# Altium integrated library NXP_60_26022015.IntLib: 1306 symbols (part 9 of 28)
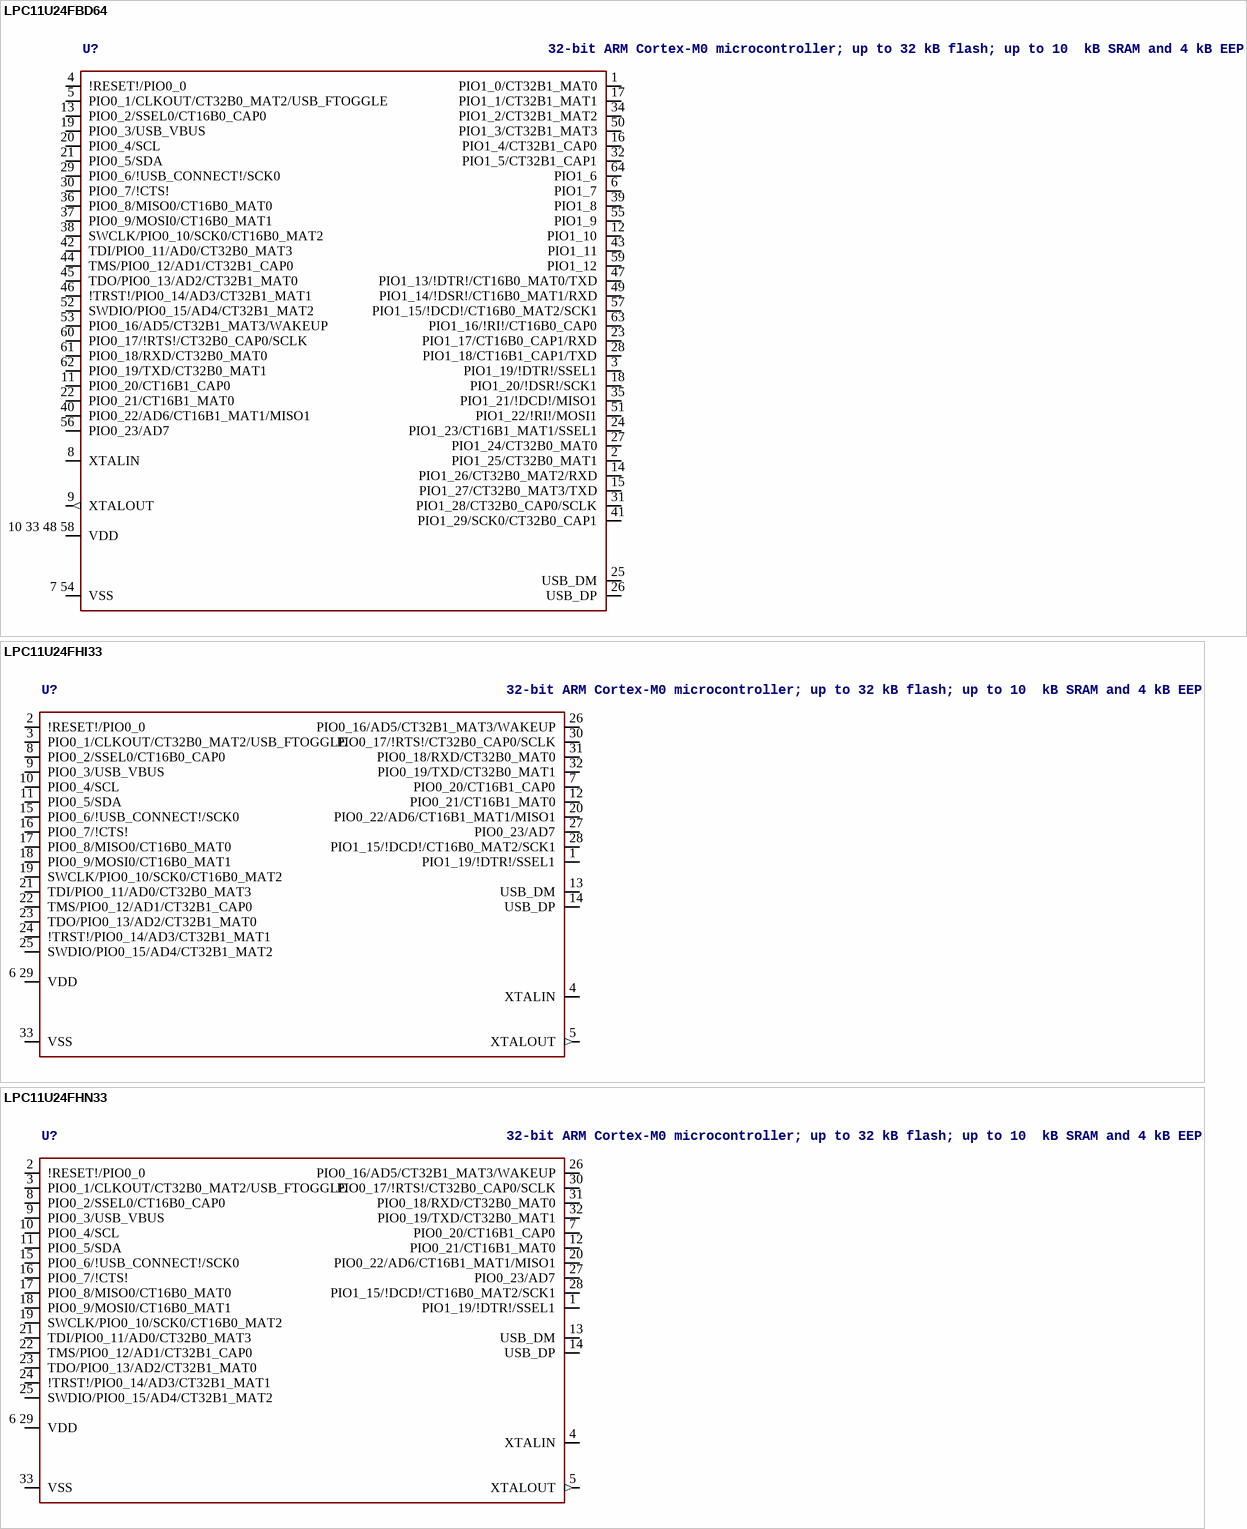
[diagram p193: symbols LPC11U24FBD64 to LPC11U24FHN33]

## LPC11U24FBD64
designator U?, comment 32-bit ARM Cortex-M0 microcontroller; up to 32 kB flash; up to 10  kB SRAM and 4 kB EEPROM; USB device; USART The LPC11U2x are an ARM Cortex-M0 based, low-cost 32-bit MCU family, designed for 8/16-bit microcontroller applications, offering performance, low power, simple instruction set and memory addressing together with reduced code size compared to existing 8/16-bit architectures. The LPC11U2x operate at CPU frequencies of up to 50 MHz. Equipped with a highly flexible and configurable Full-Speed USB 2.0 device controller, the LPC11U2x brings unparalleled design flexibility and seamless integration to today’s demanding connectivity solutions. The peripheral complement of the LPC11U2x includes up to 32 kB of flash memory, up to 10 kB of SRAM data memory and 4 kB EEPROM, one Fast-mode Plus I 2 C-bus interface, one RS-485/EIA-485 USART with support for synchronous mode and smart card interface, two SSP interfaces, four general-purpose counter/timers, a 10-bit ADC (Analog-to-Digital Converter), and up to 54 general-purpose I/O pins.   AAL Eindhoven MK
EEPROM: 4kB; FLASH: 32kB; GPIO: 54; SRAM: 8kB; USB_SRAM: 2kB
footprint SOT314-2
pins: 1 PIO1_0/CT32B1_MAT0, 2 PIO1_25/CT32B0_MAT1, 3 PIO1_19/!DTR!/SSEL1, 4 !RESET!/PIO0_0, 5 PIO0_1/CLKOUT/CT32B0_MAT2/USB_FTOGGLE, 6 PIO1_7, 7 54 VSS (power), 8 XTALIN, 9 XTALOUT (out), 10 33 48 58 VDD (power), 11 PIO0_20/CT16B1_CAP0, 12 PIO1_10, 13 PIO0_2/SSEL0/CT16B0_CAP0, 14 PIO1_26/CT32B0_MAT2/RXD, 15 PIO1_27/CT32B0_MAT3/TXD, 16 PIO1_4/CT32B1_CAP0, 17 PIO1_1/CT32B1_MAT1, 18 PIO1_20/!DSR!/SCK1, 19 PIO0_3/USB_VBUS, 20 PIO0_4/SCL, 21 PIO0_5/SDA, 22 PIO0_21/CT16B1_MAT0, 23 PIO1_17/CT16B0_CAP1/RXD, 24 PIO1_23/CT16B1_MAT1/SSEL1, 25 USB_DM, 26 USB_DP, 27 PIO1_24/CT32B0_MAT0, 28 PIO1_18/CT16B1_CAP1/TXD, 29 PIO0_6/!USB_CONNECT!/SCK0, 30 PIO0_7/!CTS!, 31 PIO1_28/CT32B0_CAP0/SCLK, 32 PIO1_5/CT32B1_CAP1, 34 PIO1_2/CT32B1_MAT2, 35 PIO1_21/!DCD!/MISO1, 36 PIO0_8/MISO0/CT16B0_MAT0, 37 PIO0_9/MOSI0/CT16B0_MAT1, 38 SWCLK/PIO0_10/SCK0/CT16B0_MAT2, 39 PIO1_8, 40 PIO0_22/AD6/CT16B1_MAT1/MISO1, 41 PIO1_29/SCK0/CT32B0_CAP1, 42 TDI/PIO0_11/AD0/CT32B0_MAT3, 43 PIO1_11, 44 TMS/PIO0_12/AD1/CT32B1_CAP0, 45 TDO/PIO0_13/AD2/CT32B1_MAT0, 46 !TRST!/PIO0_14/AD3/CT32B1_MAT1, 47 PIO1_13/!DTR!/CT16B0_MAT0/TXD, 49 PIO1_14/!DSR!/CT16B0_MAT1/RXD, 50 PIO1_3/CT32B1_MAT3, 51 PIO1_22/!RI!/MOSI1, 52 SWDIO/PIO0_15/AD4/CT32B1_MAT2, 53 PIO0_16/AD5/CT32B1_MAT3/WAKEUP, 55 PIO1_9, 56 PIO0_23/AD7, 57 PIO1_15/!DCD!/CT16B0_MAT2/SCK1, 59 PIO1_12, 60 PIO0_17/!RTS!/CT32B0_CAP0/SCLK, 61 PIO0_18/RXD/CT32B0_MAT0, 62 PIO0_19/TXD/CT32B0_MAT1, 63 PIO1_16/!RI!/CT16B0_CAP0, 64 PIO1_6

## LPC11U24FHI33
designator U?, comment 32-bit ARM Cortex-M0 microcontroller; up to 32 kB flash; up to 10  kB SRAM and 4 kB EEPROM; USB device; USART The LPC11U2x are an ARM Cortex-M0 based, low-cost 32-bit MCU family, designed for 8/16-bit microcontroller applications, offering performance, low power, simple instruction set and memory addressing together with reduced code size compared to existing 8/16-bit architectures. The LPC11U2x operate at CPU frequencies of up to 50 MHz. Equipped with a highly flexible and configurable Full-Speed USB 2.0 device controller, the LPC11U2x brings unparalleled design flexibility and seamless integration to today’s demanding connectivity solutions. The peripheral complement of the LPC11U2x includes up to 32 kB of flash memory, up to 10 kB of SRAM data memory and 4 kB EEPROM, one Fast-mode Plus I 2 C-bus interface, one RS-485/EIA-485 USART with support for synchronous mode and smart card interface, two SSP interfaces, four general-purpose counter/timers, a 10-bit ADC (Analog-to-Digital Converter), and up to 54 general-purpose I/O pins.   AAL Eindhoven MK
EEPROM: 2kB; FLASH: 32kB; GPIO: 26; SRAM: 6kB; USB_SRAM: 2kB
footprint SOT617-3
pins: 1 PIO1_19/!DTR!/SSEL1, 2 !RESET!/PIO0_0, 3 PIO0_1/CLKOUT/CT32B0_MAT2/USB_FTOGGLE, 4 XTALIN, 5 XTALOUT (out), 6 29 VDD (power), 7 PIO0_20/CT16B1_CAP0, 8 PIO0_2/SSEL0/CT16B0_CAP0, 9 PIO0_3/USB_VBUS, 10 PIO0_4/SCL, 11 PIO0_5/SDA, 12 PIO0_21/CT16B1_MAT0, 13 USB_DM, 14 USB_DP, 15 PIO0_6/!USB_CONNECT!/SCK0, 16 PIO0_7/!CTS!, 17 PIO0_8/MISO0/CT16B0_MAT0, 18 PIO0_9/MOSI0/CT16B0_MAT1, 19 SWCLK/PIO0_10/SCK0/CT16B0_MAT2, 20 PIO0_22/AD6/CT16B1_MAT1/MISO1, 21 TDI/PIO0_11/AD0/CT32B0_MAT3, 22 TMS/PIO0_12/AD1/CT32B1_CAP0, 23 TDO/PIO0_13/AD2/CT32B1_MAT0, 24 !TRST!/PIO0_14/AD3/CT32B1_MAT1, 25 SWDIO/PIO0_15/AD4/CT32B1_MAT2, 26 PIO0_16/AD5/CT32B1_MAT3/WAKEUP, 27 PIO0_23/AD7, 28 PIO1_15/!DCD!/CT16B0_MAT2/SCK1, 30 PIO0_17/!RTS!/CT32B0_CAP0/SCLK, 31 PIO0_18/RXD/CT32B0_MAT0, 32 PIO0_19/TXD/CT32B0_MAT1, 33 VSS (power)

## LPC11U24FHN33
designator U?, comment 32-bit ARM Cortex-M0 microcontroller; up to 32 kB flash; up to 10  kB SRAM and 4 kB EEPROM; USB device; USART The LPC11U2x are an ARM Cortex-M0 based, low-cost 32-bit MCU family, designed for 8/16-bit microcontroller applications, offering performance, low power, simple instruction set and memory addressing together with reduced code size compared to existing 8/16-bit architectures. The LPC11U2x operate at CPU frequencies of up to 50 MHz. Equipped with a highly flexible and configurable Full-Speed USB 2.0 device controller, the LPC11U2x brings unparalleled design flexibility and seamless integration to today’s demanding connectivity solutions. The peripheral complement of the LPC11U2x includes up to 32 kB of flash memory, up to 10 kB of SRAM data memory and 4 kB EEPROM, one Fast-mode Plus I 2 C-bus interface, one RS-485/EIA-485 USART with support for synchronous mode and smart card interface, two SSP interfaces, four general-purpose counter/timers, a 10-bit ADC (Analog-to-Digital Converter), and up to 54 general-purpose I/O pins.   AAL Eindhoven MK
EEPROM: 4kB; FLASH: 32kB; GPIO: 26; SRAM: 8kB; USB_SRAM: 2kB
footprint SOT-HVQFN33
pins: 1 PIO1_19/!DTR!/SSEL1, 2 !RESET!/PIO0_0, 3 PIO0_1/CLKOUT/CT32B0_MAT2/USB_FTOGGLE, 4 XTALIN, 5 XTALOUT (out), 6 29 VDD (power), 7 PIO0_20/CT16B1_CAP0, 8 PIO0_2/SSEL0/CT16B0_CAP0, 9 PIO0_3/USB_VBUS, 10 PIO0_4/SCL, 11 PIO0_5/SDA, 12 PIO0_21/CT16B1_MAT0, 13 USB_DM, 14 USB_DP, 15 PIO0_6/!USB_CONNECT!/SCK0, 16 PIO0_7/!CTS!, 17 PIO0_8/MISO0/CT16B0_MAT0, 18 PIO0_9/MOSI0/CT16B0_MAT1, 19 SWCLK/PIO0_10/SCK0/CT16B0_MAT2, 20 PIO0_22/AD6/CT16B1_MAT1/MISO1, 21 TDI/PIO0_11/AD0/CT32B0_MAT3, 22 TMS/PIO0_12/AD1/CT32B1_CAP0, 23 TDO/PIO0_13/AD2/CT32B1_MAT0, 24 !TRST!/PIO0_14/AD3/CT32B1_MAT1, 25 SWDIO/PIO0_15/AD4/CT32B1_MAT2, 26 PIO0_16/AD5/CT32B1_MAT3/WAKEUP, 27 PIO0_23/AD7, 28 PIO1_15/!DCD!/CT16B0_MAT2/SCK1, 30 PIO0_17/!RTS!/CT32B0_CAP0/SCLK, 31 PIO0_18/RXD/CT32B0_MAT0, 32 PIO0_19/TXD/CT32B0_MAT1, 33 VSS (power)

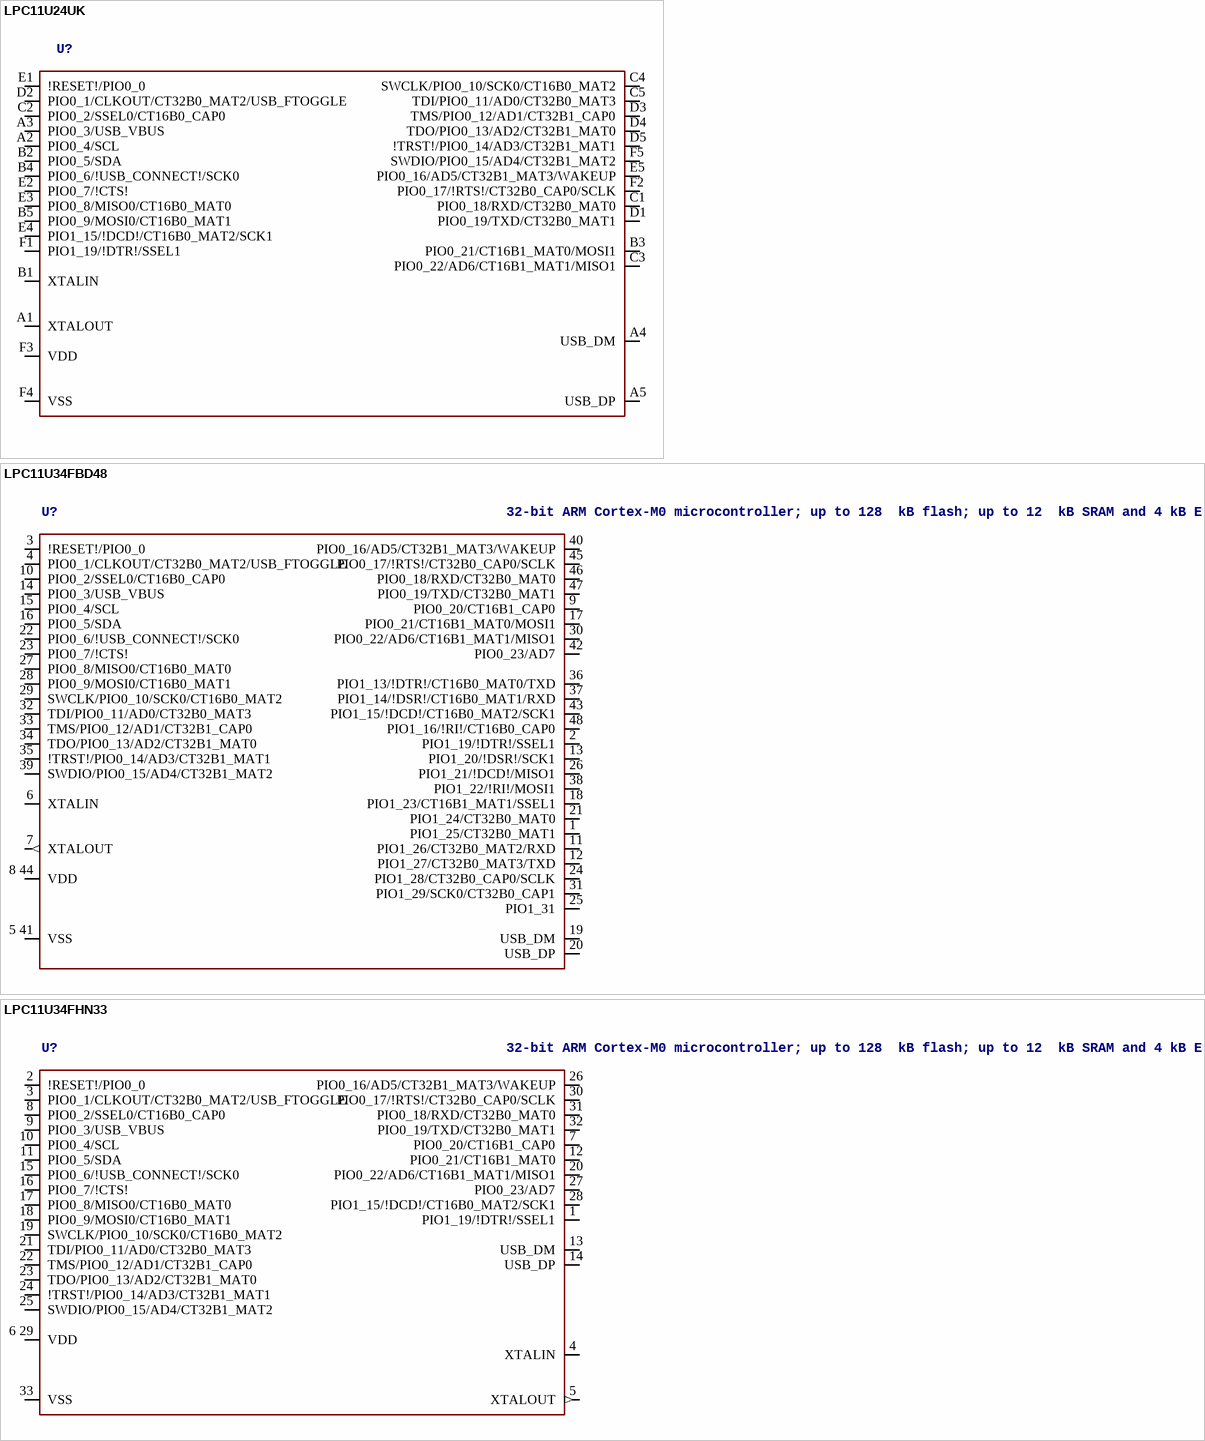
[diagram p48: symbols LPC11U24UK to LPC11U34FHN33]

## LPC11U24UK
designator U?
footprint WLCSP30
pins: A1 XTALOUT, A2 PIO0_4/SCL, A3 PIO0_3/USB_VBUS, A4 USB_DM, A5 USB_DP, B1 XTALIN, B2 PIO0_5/SDA, B3 PIO0_21/CT16B1_MAT0/MOSI1, B4 PIO0_6/!USB_CONNECT!/SCK0, B5 PIO0_9/MOSI0/CT16B0_MAT1, C1 PIO0_18/RXD/CT32B0_MAT0, C2 PIO0_2/SSEL0/CT16B0_CAP0, C3 PIO0_22/AD6/CT16B1_MAT1/MISO1, C4 SWCLK/PIO0_10/SCK0/CT16B0_MAT2, C5 TDI/PIO0_11/AD0/CT32B0_MAT3, D1 PIO0_19/TXD/CT32B0_MAT1, D2 PIO0_1/CLKOUT/CT32B0_MAT2/USB_FTOGGLE, D3 TMS/PIO0_12/AD1/CT32B1_CAP0, D4 TDO/PIO0_13/AD2/CT32B1_MAT0, D5 !TRST!/PIO0_14/AD3/CT32B1_MAT1, E1 !RESET!/PIO0_0, E2 PIO0_7/!CTS!, E3 PIO0_8/MISO0/CT16B0_MAT0, E4 PIO1_15/!DCD!/CT16B0_MAT2/SCK1, E5 PIO0_16/AD5/CT32B1_MAT3/WAKEUP, F1 PIO1_19/!DTR!/SSEL1, F2 PIO0_17/!RTS!/CT32B0_CAP0/SCLK, F3 VDD (power), F4 VSS (power), F5 SWDIO/PIO0_15/AD4/CT32B1_MAT2

## LPC11U34FBD48
designator U?, comment 32-bit ARM Cortex-M0 microcontroller; up to 128  kB flash; up to 12  kB SRAM and 4 kB EEPROM; USB device; USART The LPC11U3x are a ARM Cortex-M0 based, low-cost 32-bit MCU family, designed for 8/16-bit microcontroller applications, offering performance, low power, simple instruction set and memory addressing together with reduced code size compared to existing 8/16-bit architectures. The LPC11U3x operate at CPU frequencies of up to 50 MHz. Equipped with a highly flexible and configurable Full Speed USB 2.0 device controller, the LPC11U3x brings unparalleled design flexibility and seamless integration to today’s demanding connectivity solutions. The peripheral complement of the LPC11U3x includes up to 128 kB of flash memory, up to 12 kB of SRAM data memory and 4 kB EEPROM, one Fast-mode Plus I 2 C-bus interface, one RS-485/EIA-485 USART with support for synchronous mode and smart card interface, two SSP interfaces, four general purpose counter/timers, a 10-bit ADC, and up to 54 general purpose I/O pins.    AAL Eindhoven MK
FLASH: 40kB; GPIO: 40; SRAM: 8kB; FLASH: 48kB; SRAM: 10kB
footprint SOT313-2
pins: 1 PIO1_25/CT32B0_MAT1, 2 PIO1_19/!DTR!/SSEL1, 3 !RESET!/PIO0_0, 4 PIO0_1/CLKOUT/CT32B0_MAT2/USB_FTOGGLE, 5 41 VSS (power), 6 XTALIN, 7 XTALOUT (out), 8 44 VDD (power), 9 PIO0_20/CT16B1_CAP0, 10 PIO0_2/SSEL0/CT16B0_CAP0, 11 PIO1_26/CT32B0_MAT2/RXD, 12 PIO1_27/CT32B0_MAT3/TXD, 13 PIO1_20/!DSR!/SCK1, 14 PIO0_3/USB_VBUS, 15 PIO0_4/SCL, 16 PIO0_5/SDA, 17 PIO0_21/CT16B1_MAT0/MOSI1, 18 PIO1_23/CT16B1_MAT1/SSEL1, 19 USB_DM, 20 USB_DP, 21 PIO1_24/CT32B0_MAT0, 22 PIO0_6/!USB_CONNECT!/SCK0, 23 PIO0_7/!CTS!, 24 PIO1_28/CT32B0_CAP0/SCLK, 25 PIO1_31, 26 PIO1_21/!DCD!/MISO1, 27 PIO0_8/MISO0/CT16B0_MAT0, 28 PIO0_9/MOSI0/CT16B0_MAT1, 29 SWCLK/PIO0_10/SCK0/CT16B0_MAT2, 30 PIO0_22/AD6/CT16B1_MAT1/MISO1, 31 PIO1_29/SCK0/CT32B0_CAP1, 32 TDI/PIO0_11/AD0/CT32B0_MAT3, 33 TMS/PIO0_12/AD1/CT32B1_CAP0, 34 TDO/PIO0_13/AD2/CT32B1_MAT0, 35 !TRST!/PIO0_14/AD3/CT32B1_MAT1, 36 PIO1_13/!DTR!/CT16B0_MAT0/TXD, 37 PIO1_14/!DSR!/CT16B0_MAT1/RXD, 38 PIO1_22/!RI!/MOSI1, 39 SWDIO/PIO0_15/AD4/CT32B1_MAT2, 40 PIO0_16/AD5/CT32B1_MAT3/WAKEUP, 42 PIO0_23/AD7, 43 PIO1_15/!DCD!/CT16B0_MAT2/SCK1, 45 PIO0_17/!RTS!/CT32B0_CAP0/SCLK, 46 PIO0_18/RXD/CT32B0_MAT0, 47 PIO0_19/TXD/CT32B0_MAT1, 48 PIO1_16/!RI!/CT16B0_CAP0

## LPC11U34FHN33
designator U?, comment 32-bit ARM Cortex-M0 microcontroller; up to 128  kB flash; up to 12  kB SRAM and 4 kB EEPROM; USB device; USART The LPC11U3x are a ARM Cortex-M0 based, low-cost 32-bit MCU family, designed for 8/16-bit microcontroller applications, offering performance, low power, simple instruction set and memory addressing together with reduced code size compared to existing 8/16-bit architectures. The LPC11U3x operate at CPU frequencies of up to 50 MHz. Equipped with a highly flexible and configurable Full Speed USB 2.0 device controller, the LPC11U3x brings unparalleled design flexibility and seamless integration to today’s demanding connectivity solutions. The peripheral complement of the LPC11U3x includes up to 128 kB of flash memory, up to 12 kB of SRAM data memory and 4 kB EEPROM, one Fast-mode Plus I 2 C-bus interface, one RS-485/EIA-485 USART with support for synchronous mode and smart card interface, two SSP interfaces, four general purpose counter/timers, a 10-bit ADC, and up to 54 general purpose I/O pins.    AAL Eindhoven MK
FLASH: 40kB; GPIO: 26; SRAM: 8kB; FLASH: 48kB; SRAM: 10kB
footprint SOT-HVQFN33
pins: 1 PIO1_19/!DTR!/SSEL1, 2 !RESET!/PIO0_0, 3 PIO0_1/CLKOUT/CT32B0_MAT2/USB_FTOGGLE, 4 XTALIN, 5 XTALOUT (out), 6 29 VDD (power), 7 PIO0_20/CT16B1_CAP0, 8 PIO0_2/SSEL0/CT16B0_CAP0, 9 PIO0_3/USB_VBUS, 10 PIO0_4/SCL, 11 PIO0_5/SDA, 12 PIO0_21/CT16B1_MAT0, 13 USB_DM, 14 USB_DP, 15 PIO0_6/!USB_CONNECT!/SCK0, 16 PIO0_7/!CTS!, 17 PIO0_8/MISO0/CT16B0_MAT0, 18 PIO0_9/MOSI0/CT16B0_MAT1, 19 SWCLK/PIO0_10/SCK0/CT16B0_MAT2, 20 PIO0_22/AD6/CT16B1_MAT1/MISO1, 21 TDI/PIO0_11/AD0/CT32B0_MAT3, 22 TMS/PIO0_12/AD1/CT32B1_CAP0, 23 TDO/PIO0_13/AD2/CT32B1_MAT0, 24 !TRST!/PIO0_14/AD3/CT32B1_MAT1, 25 SWDIO/PIO0_15/AD4/CT32B1_MAT2, 26 PIO0_16/AD5/CT32B1_MAT3/WAKEUP, 27 PIO0_23/AD7, 28 PIO1_15/!DCD!/CT16B0_MAT2/SCK1, 30 PIO0_17/!RTS!/CT32B0_CAP0/SCLK, 31 PIO0_18/RXD/CT32B0_MAT0, 32 PIO0_19/TXD/CT32B0_MAT1, 33 VSS (power)

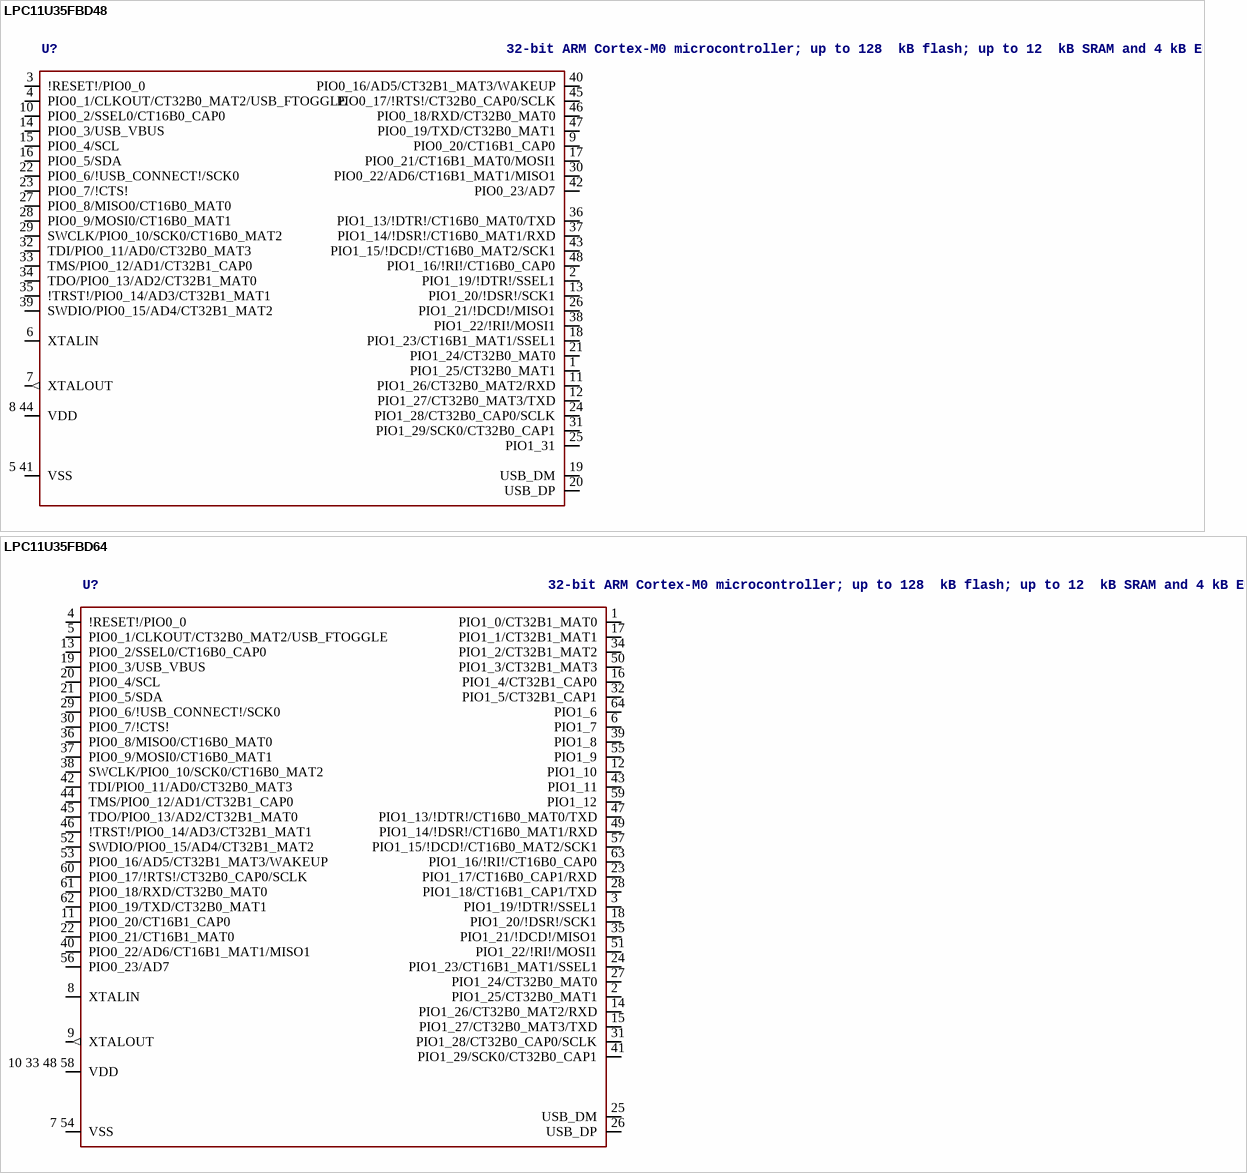
[diagram p49: symbols LPC11U35FBD48 to LPC11U35FBD64]

## LPC11U35FBD48
designator U?, comment 32-bit ARM Cortex-M0 microcontroller; up to 128  kB flash; up to 12  kB SRAM and 4 kB EEPROM; USB device; USART The LPC11U3x are a ARM Cortex-M0 based, low-cost 32-bit MCU family, designed for 8/16-bit microcontroller applications, offering performance, low power, simple instruction set and memory addressing together with reduced code size compared to existing 8/16-bit architectures. The LPC11U3x operate at CPU frequencies of up to 50 MHz. Equipped with a highly flexible and configurable Full Speed USB 2.0 device controller, the LPC11U3x brings unparalleled design flexibility and seamless integration to today’s demanding connectivity solutions. The peripheral complement of the LPC11U3x includes up to 128 kB of flash memory, up to 12 kB of SRAM data memory and 4 kB EEPROM, one Fast-mode Plus I 2 C-bus interface, one RS-485/EIA-485 USART with support for synchronous mode and smart card interface, two SSP interfaces, four general purpose counter/timers, a 10-bit ADC, and up to 54 general purpose I/O pins.    AAL Eindhoven MK
FLASH: 64kB; GPIO: 40; SRAM: 10kB
footprint SOT313-2
pins: 1 PIO1_25/CT32B0_MAT1, 2 PIO1_19/!DTR!/SSEL1, 3 !RESET!/PIO0_0, 4 PIO0_1/CLKOUT/CT32B0_MAT2/USB_FTOGGLE, 5 41 VSS (power), 6 XTALIN, 7 XTALOUT (out), 8 44 VDD (power), 9 PIO0_20/CT16B1_CAP0, 10 PIO0_2/SSEL0/CT16B0_CAP0, 11 PIO1_26/CT32B0_MAT2/RXD, 12 PIO1_27/CT32B0_MAT3/TXD, 13 PIO1_20/!DSR!/SCK1, 14 PIO0_3/USB_VBUS, 15 PIO0_4/SCL, 16 PIO0_5/SDA, 17 PIO0_21/CT16B1_MAT0/MOSI1, 18 PIO1_23/CT16B1_MAT1/SSEL1, 19 USB_DM, 20 USB_DP, 21 PIO1_24/CT32B0_MAT0, 22 PIO0_6/!USB_CONNECT!/SCK0, 23 PIO0_7/!CTS!, 24 PIO1_28/CT32B0_CAP0/SCLK, 25 PIO1_31, 26 PIO1_21/!DCD!/MISO1, 27 PIO0_8/MISO0/CT16B0_MAT0, 28 PIO0_9/MOSI0/CT16B0_MAT1, 29 SWCLK/PIO0_10/SCK0/CT16B0_MAT2, 30 PIO0_22/AD6/CT16B1_MAT1/MISO1, 31 PIO1_29/SCK0/CT32B0_CAP1, 32 TDI/PIO0_11/AD0/CT32B0_MAT3, 33 TMS/PIO0_12/AD1/CT32B1_CAP0, 34 TDO/PIO0_13/AD2/CT32B1_MAT0, 35 !TRST!/PIO0_14/AD3/CT32B1_MAT1, 36 PIO1_13/!DTR!/CT16B0_MAT0/TXD, 37 PIO1_14/!DSR!/CT16B0_MAT1/RXD, 38 PIO1_22/!RI!/MOSI1, 39 SWDIO/PIO0_15/AD4/CT32B1_MAT2, 40 PIO0_16/AD5/CT32B1_MAT3/WAKEUP, 42 PIO0_23/AD7, 43 PIO1_15/!DCD!/CT16B0_MAT2/SCK1, 45 PIO0_17/!RTS!/CT32B0_CAP0/SCLK, 46 PIO0_18/RXD/CT32B0_MAT0, 47 PIO0_19/TXD/CT32B0_MAT1, 48 PIO1_16/!RI!/CT16B0_CAP0

## LPC11U35FBD64
designator U?, comment 32-bit ARM Cortex-M0 microcontroller; up to 128  kB flash; up to 12  kB SRAM and 4 kB EEPROM; USB device; USART The LPC11U3x are a ARM Cortex-M0 based, low-cost 32-bit MCU family, designed for 8/16-bit microcontroller applications, offering performance, low power, simple instruction set and memory addressing together with reduced code size compared to existing 8/16-bit architectures. The LPC11U3x operate at CPU frequencies of up to 50 MHz. Equipped with a highly flexible and configurable Full Speed USB 2.0 device controller, the LPC11U3x brings unparalleled design flexibility and seamless integration to today’s demanding connectivity solutions. The peripheral complement of the LPC11U3x includes up to 128 kB of flash memory, up to 12 kB of SRAM data memory and 4 kB EEPROM, one Fast-mode Plus I 2 C-bus interface, one RS-485/EIA-485 USART with support for synchronous mode and smart card interface, two SSP interfaces, four general purpose counter/timers, a 10-bit ADC, and up to 54 general purpose I/O pins.    AAL Eindhoven MK
FLASH: 64kB; GPIO: 54; SRAM: 10kB
footprint SOT314-2
pins: 1 PIO1_0/CT32B1_MAT0, 2 PIO1_25/CT32B0_MAT1, 3 PIO1_19/!DTR!/SSEL1, 4 !RESET!/PIO0_0, 5 PIO0_1/CLKOUT/CT32B0_MAT2/USB_FTOGGLE, 6 PIO1_7, 7 54 VSS (power), 8 XTALIN, 9 XTALOUT (out), 10 33 48 58 VDD (power), 11 PIO0_20/CT16B1_CAP0, 12 PIO1_10, 13 PIO0_2/SSEL0/CT16B0_CAP0, 14 PIO1_26/CT32B0_MAT2/RXD, 15 PIO1_27/CT32B0_MAT3/TXD, 16 PIO1_4/CT32B1_CAP0, 17 PIO1_1/CT32B1_MAT1, 18 PIO1_20/!DSR!/SCK1, 19 PIO0_3/USB_VBUS, 20 PIO0_4/SCL, 21 PIO0_5/SDA, 22 PIO0_21/CT16B1_MAT0, 23 PIO1_17/CT16B0_CAP1/RXD, 24 PIO1_23/CT16B1_MAT1/SSEL1, 25 USB_DM, 26 USB_DP, 27 PIO1_24/CT32B0_MAT0, 28 PIO1_18/CT16B1_CAP1/TXD, 29 PIO0_6/!USB_CONNECT!/SCK0, 30 PIO0_7/!CTS!, 31 PIO1_28/CT32B0_CAP0/SCLK, 32 PIO1_5/CT32B1_CAP1, 34 PIO1_2/CT32B1_MAT2, 35 PIO1_21/!DCD!/MISO1, 36 PIO0_8/MISO0/CT16B0_MAT0, 37 PIO0_9/MOSI0/CT16B0_MAT1, 38 SWCLK/PIO0_10/SCK0/CT16B0_MAT2, 39 PIO1_8, 40 PIO0_22/AD6/CT16B1_MAT1/MISO1, 41 PIO1_29/SCK0/CT32B0_CAP1, 42 TDI/PIO0_11/AD0/CT32B0_MAT3, 43 PIO1_11, 44 TMS/PIO0_12/AD1/CT32B1_CAP0, 45 TDO/PIO0_13/AD2/CT32B1_MAT0, 46 !TRST!/PIO0_14/AD3/CT32B1_MAT1, 47 PIO1_13/!DTR!/CT16B0_MAT0/TXD, 49 PIO1_14/!DSR!/CT16B0_MAT1/RXD, 50 PIO1_3/CT32B1_MAT3, 51 PIO1_22/!RI!/MOSI1, 52 SWDIO/PIO0_15/AD4/CT32B1_MAT2, 53 PIO0_16/AD5/CT32B1_MAT3/WAKEUP, 55 PIO1_9, 56 PIO0_23/AD7, 57 PIO1_15/!DCD!/CT16B0_MAT2/SCK1, 59 PIO1_12, 60 PIO0_17/!RTS!/CT32B0_CAP0/SCLK, 61 PIO0_18/RXD/CT32B0_MAT0, 62 PIO0_19/TXD/CT32B0_MAT1, 63 PIO1_16/!RI!/CT16B0_CAP0, 64 PIO1_6

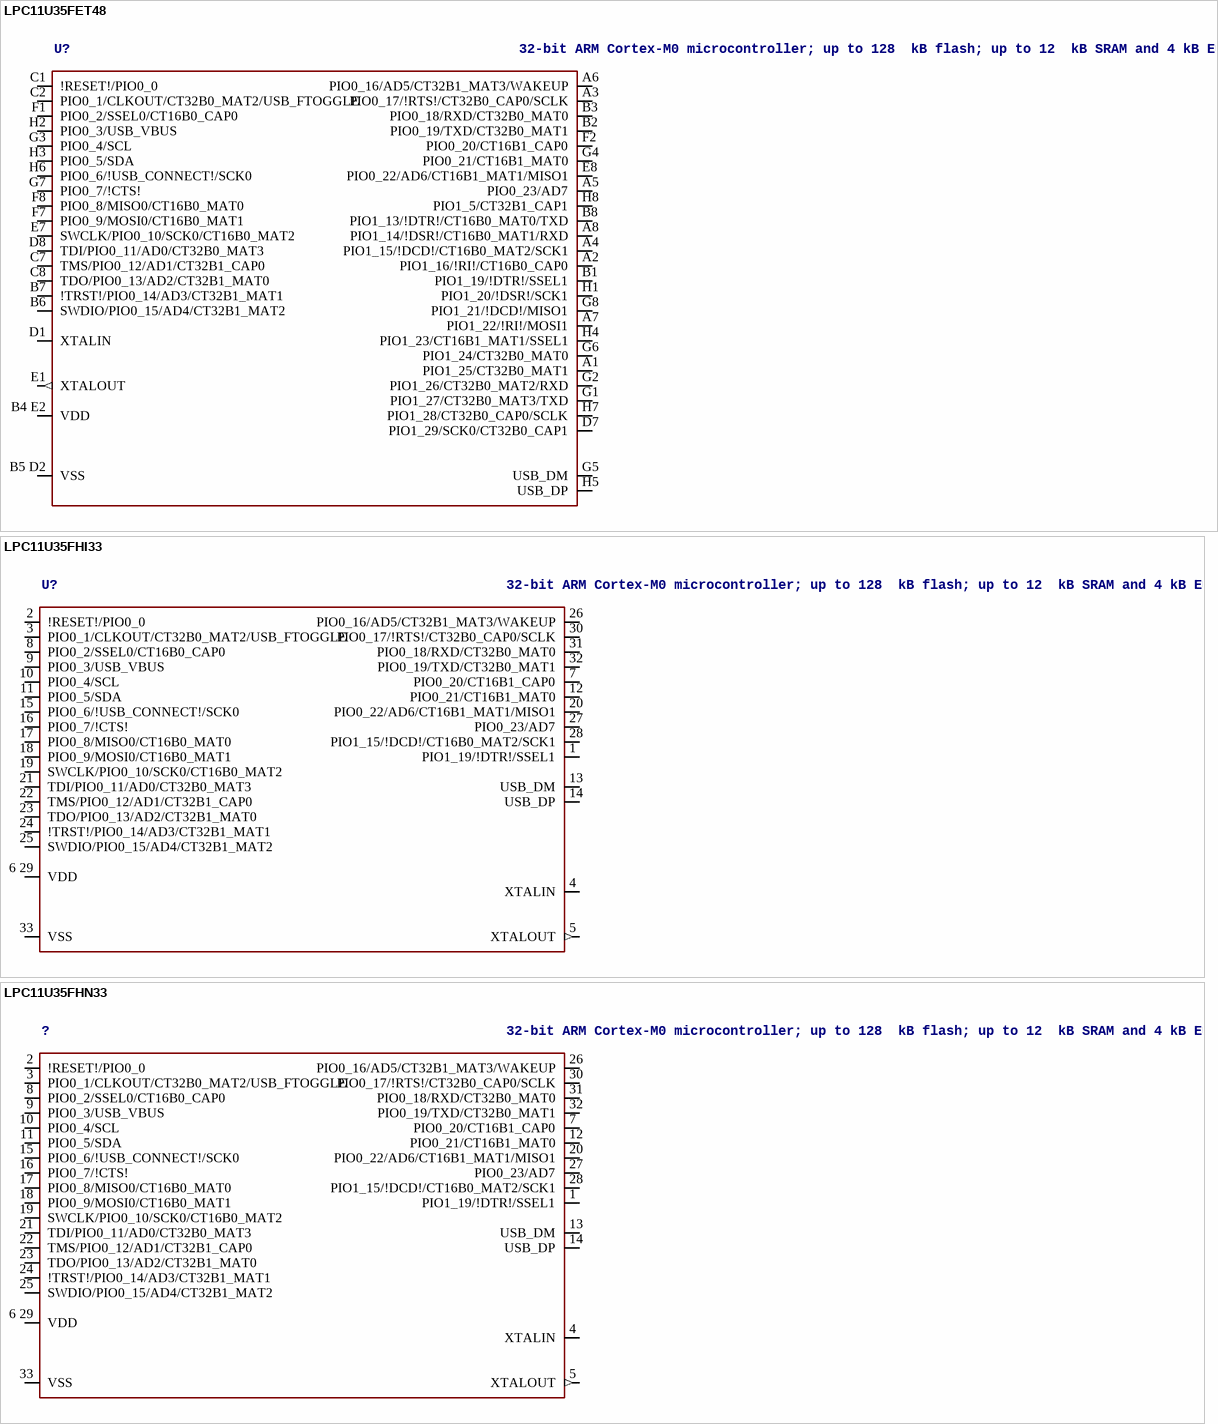
[diagram p50: symbols LPC11U35FET48 to LPC11U35FHN33]

## LPC11U35FET48
designator U?, comment 32-bit ARM Cortex-M0 microcontroller; up to 128  kB flash; up to 12  kB SRAM and 4 kB EEPROM; USB device; USART The LPC11U3x are a ARM Cortex-M0 based, low-cost 32-bit MCU family, designed for 8/16-bit microcontroller applications, offering performance, low power, simple instruction set and memory addressing together with reduced code size compared to existing 8/16-bit architectures. The LPC11U3x operate at CPU frequencies of up to 50 MHz. Equipped with a highly flexible and configurable Full Speed USB 2.0 device controller, the LPC11U3x brings unparalleled design flexibility and seamless integration to today’s demanding connectivity solutions. The peripheral complement of the LPC11U3x includes up to 128 kB of flash memory, up to 12 kB of SRAM data memory and 4 kB EEPROM, one Fast-mode Plus I 2 C-bus interface, one RS-485/EIA-485 USART with support for synchronous mode and smart card interface, two SSP interfaces, four general purpose counter/timers, a 10-bit ADC, and up to 54 general purpose I/O pins.    AAL Eindhoven MK
FLASH: 64kB; GPIO: 40; SRAM: 12kB
footprint SOT1155-2
pins: A1 PIO1_25/CT32B0_MAT1, A2 PIO1_16/!RI!/CT16B0_CAP0, A3 PIO0_17/!RTS!/CT32B0_CAP0/SCLK, A4 PIO1_15/!DCD!/CT16B0_MAT2/SCK1, A5 PIO0_23/AD7, A6 PIO0_16/AD5/CT32B1_MAT3/WAKEUP, A7 PIO1_22/!RI!/MOSI1, A8 PIO1_14/!DSR!/CT16B0_MAT1/RXD, B1 PIO1_19/!DTR!/SSEL1, B2 PIO0_19/TXD/CT32B0_MAT1, B3 PIO0_18/RXD/CT32B0_MAT0, B4 E2 VDD (power), B5 D2 VSS (power), B6 SWDIO/PIO0_15/AD4/CT32B1_MAT2, B7 !TRST!/PIO0_14/AD3/CT32B1_MAT1, B8 PIO1_13/!DTR!/CT16B0_MAT0/TXD, C1 !RESET!/PIO0_0, C2 PIO0_1/CLKOUT/CT32B0_MAT2/USB_FTOGGLE, C7 TMS/PIO0_12/AD1/CT32B1_CAP0, C8 TDO/PIO0_13/AD2/CT32B1_MAT0, D1 XTALIN, D7 PIO1_29/SCK0/CT32B0_CAP1, D8 TDI/PIO0_11/AD0/CT32B0_MAT3, E1 XTALOUT (out), E7 SWCLK/PIO0_10/SCK0/CT16B0_MAT2, E8 PIO0_22/AD6/CT16B1_MAT1/MISO1, F1 PIO0_2/SSEL0/CT16B0_CAP0, F2 PIO0_20/CT16B1_CAP0, F7 PIO0_9/MOSI0/CT16B0_MAT1, F8 PIO0_8/MISO0/CT16B0_MAT0, G1 PIO1_27/CT32B0_MAT3/TXD, G2 PIO1_26/CT32B0_MAT2/RXD, G3 PIO0_4/SCL, G4 PIO0_21/CT16B1_MAT0, G5 USB_DM, G6 PIO1_24/CT32B0_MAT0, G7 PIO0_7/!CTS!, G8 PIO1_21/!DCD!/MISO1, H1 PIO1_20/!DSR!/SCK1, H2 PIO0_3/USB_VBUS, H3 PIO0_5/SDA, H4 PIO1_23/CT16B1_MAT1/SSEL1, H5 USB_DP, H6 PIO0_6/!USB_CONNECT!/SCK0, H7 PIO1_28/CT32B0_CAP0/SCLK, H8 PIO1_5/CT32B1_CAP1

## LPC11U35FHI33
designator U?, comment 32-bit ARM Cortex-M0 microcontroller; up to 128  kB flash; up to 12  kB SRAM and 4 kB EEPROM; USB device; USART The LPC11U3x are a ARM Cortex-M0 based, low-cost 32-bit MCU family, designed for 8/16-bit microcontroller applications, offering performance, low power, simple instruction set and memory addressing together with reduced code size compared to existing 8/16-bit architectures. The LPC11U3x operate at CPU frequencies of up to 50 MHz. Equipped with a highly flexible and configurable Full Speed USB 2.0 device controller, the LPC11U3x brings unparalleled design flexibility and seamless integration to today’s demanding connectivity solutions. The peripheral complement of the LPC11U3x includes up to 128 kB of flash memory, up to 12 kB of SRAM data memory and 4 kB EEPROM, one Fast-mode Plus I 2 C-bus interface, one RS-485/EIA-485 USART with support for synchronous mode and smart card interface, two SSP interfaces, four general purpose counter/timers, a 10-bit ADC, and up to 54 general purpose I/O pins.    AAL Eindhoven MK
FLASH: 64kB; GPIO: 26; SRAM: 12kB
footprint SOT617-3
pins: 1 PIO1_19/!DTR!/SSEL1, 2 !RESET!/PIO0_0, 3 PIO0_1/CLKOUT/CT32B0_MAT2/USB_FTOGGLE, 4 XTALIN, 5 XTALOUT (out), 6 29 VDD (power), 7 PIO0_20/CT16B1_CAP0, 8 PIO0_2/SSEL0/CT16B0_CAP0, 9 PIO0_3/USB_VBUS, 10 PIO0_4/SCL, 11 PIO0_5/SDA, 12 PIO0_21/CT16B1_MAT0, 13 USB_DM, 14 USB_DP, 15 PIO0_6/!USB_CONNECT!/SCK0, 16 PIO0_7/!CTS!, 17 PIO0_8/MISO0/CT16B0_MAT0, 18 PIO0_9/MOSI0/CT16B0_MAT1, 19 SWCLK/PIO0_10/SCK0/CT16B0_MAT2, 20 PIO0_22/AD6/CT16B1_MAT1/MISO1, 21 TDI/PIO0_11/AD0/CT32B0_MAT3, 22 TMS/PIO0_12/AD1/CT32B1_CAP0, 23 TDO/PIO0_13/AD2/CT32B1_MAT0, 24 !TRST!/PIO0_14/AD3/CT32B1_MAT1, 25 SWDIO/PIO0_15/AD4/CT32B1_MAT2, 26 PIO0_16/AD5/CT32B1_MAT3/WAKEUP, 27 PIO0_23/AD7, 28 PIO1_15/!DCD!/CT16B0_MAT2/SCK1, 30 PIO0_17/!RTS!/CT32B0_CAP0/SCLK, 31 PIO0_18/RXD/CT32B0_MAT0, 32 PIO0_19/TXD/CT32B0_MAT1, 33 VSS (power)

## LPC11U35FHN33
designator ?, comment 32-bit ARM Cortex-M0 microcontroller; up to 128  kB flash; up to 12  kB SRAM and 4 kB EEPROM; USB device; USART The LPC11U3x are a ARM Cortex-M0 based, low-cost 32-bit MCU family, designed for 8/16-bit microcontroller applications, offering performance, low power, simple instruction set and memory addressing together with reduced code size compared to existing 8/16-bit architectures. The LPC11U3x operate at CPU frequencies of up to 50 MHz. Equipped with a highly flexible and configurable Full Speed USB 2.0 device controller, the LPC11U3x brings unparalleled design flexibility and seamless integration to today’s demanding connectivity solutions. The peripheral complement of the LPC11U3x includes up to 128 kB of flash memory, up to 12 kB of SRAM data memory and 4 kB EEPROM, one Fast-mode Plus I 2 C-bus interface, one RS-485/EIA-485 USART with support for synchronous mode and smart card interface, two SSP interfaces, four general purpose counter/timers, a 10-bit ADC, and up to 54 general purpose I/O pins.    AAL Eindhoven MK
FLASH: 64kB; GPIO: 26; SRAM: 10kB
footprint SOT-HVQFN33
pins: 1 PIO1_19/!DTR!/SSEL1, 2 !RESET!/PIO0_0, 3 PIO0_1/CLKOUT/CT32B0_MAT2/USB_FTOGGLE, 4 XTALIN, 5 XTALOUT (out), 6 29 VDD (power), 7 PIO0_20/CT16B1_CAP0, 8 PIO0_2/SSEL0/CT16B0_CAP0, 9 PIO0_3/USB_VBUS, 10 PIO0_4/SCL, 11 PIO0_5/SDA, 12 PIO0_21/CT16B1_MAT0, 13 USB_DM, 14 USB_DP, 15 PIO0_6/!USB_CONNECT!/SCK0, 16 PIO0_7/!CTS!, 17 PIO0_8/MISO0/CT16B0_MAT0, 18 PIO0_9/MOSI0/CT16B0_MAT1, 19 SWCLK/PIO0_10/SCK0/CT16B0_MAT2, 20 PIO0_22/AD6/CT16B1_MAT1/MISO1, 21 TDI/PIO0_11/AD0/CT32B0_MAT3, 22 TMS/PIO0_12/AD1/CT32B1_CAP0, 23 TDO/PIO0_13/AD2/CT32B1_MAT0, 24 !TRST!/PIO0_14/AD3/CT32B1_MAT1, 25 SWDIO/PIO0_15/AD4/CT32B1_MAT2, 26 PIO0_16/AD5/CT32B1_MAT3/WAKEUP, 27 PIO0_23/AD7, 28 PIO1_15/!DCD!/CT16B0_MAT2/SCK1, 30 PIO0_17/!RTS!/CT32B0_CAP0/SCLK, 31 PIO0_18/RXD/CT32B0_MAT0, 32 PIO0_19/TXD/CT32B0_MAT1, 33 VSS (power)

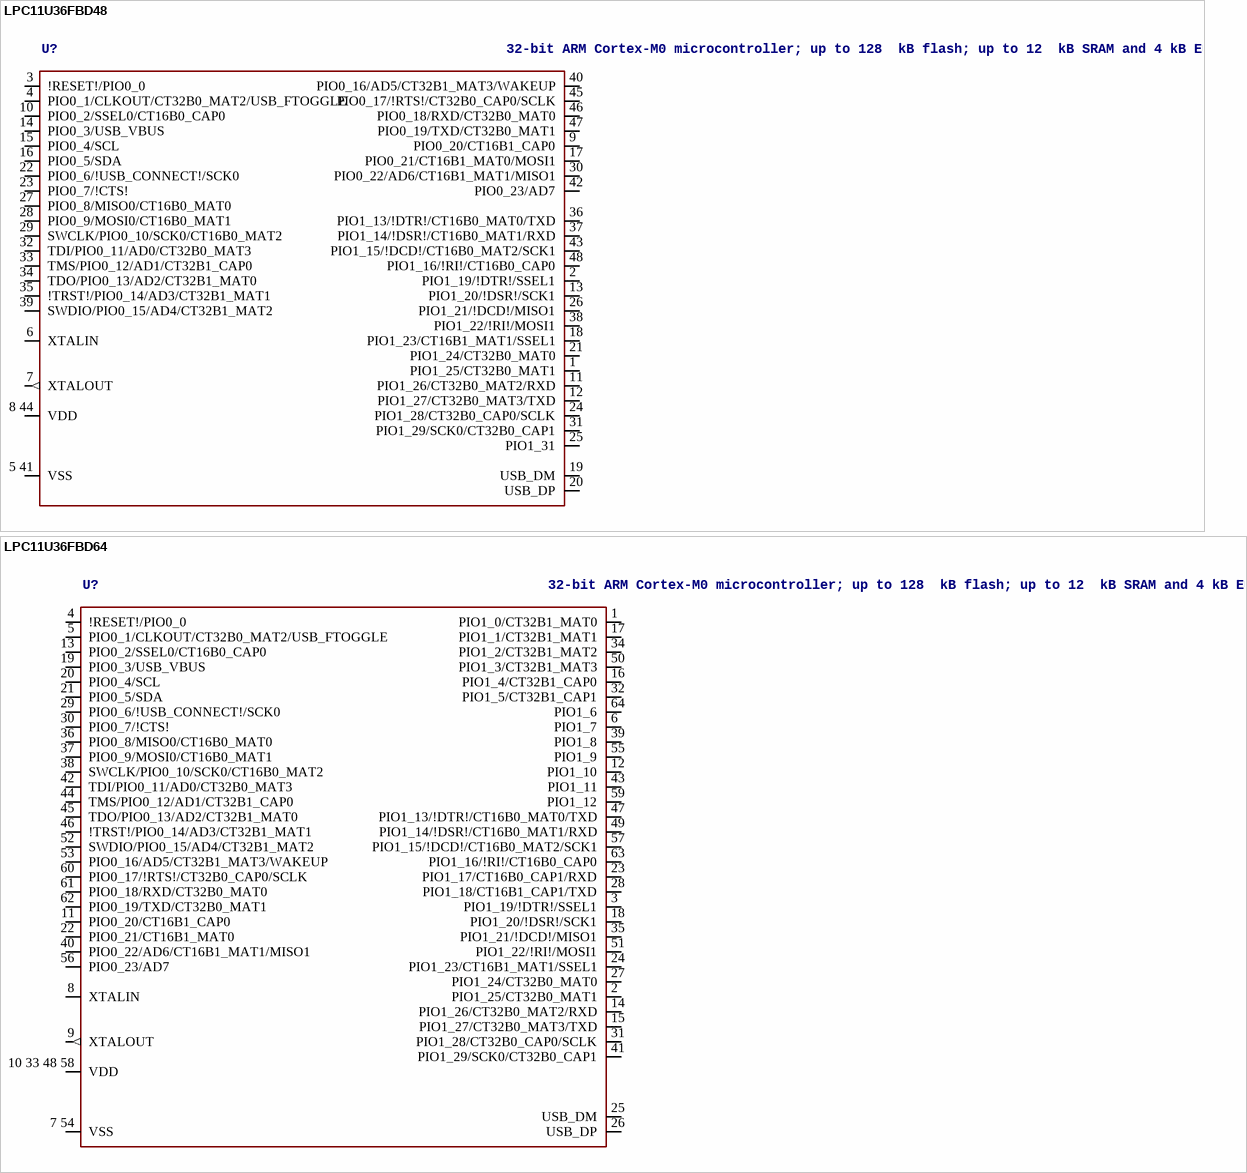
[diagram p51: symbols LPC11U36FBD48 to LPC11U36FBD64]

## LPC11U36FBD48
designator U?, comment 32-bit ARM Cortex-M0 microcontroller; up to 128  kB flash; up to 12  kB SRAM and 4 kB EEPROM; USB device; USART The LPC11U3x are a ARM Cortex-M0 based, low-cost 32-bit MCU family, designed for 8/16-bit microcontroller applications, offering performance, low power, simple instruction set and memory addressing together with reduced code size compared to existing 8/16-bit architectures. The LPC11U3x operate at CPU frequencies of up to 50 MHz. Equipped with a highly flexible and configurable Full Speed USB 2.0 device controller, the LPC11U3x brings unparalleled design flexibility and seamless integration to today’s demanding connectivity solutions. The peripheral complement of the LPC11U3x includes up to 128 kB of flash memory, up to 12 kB of SRAM data memory and 4 kB EEPROM, one Fast-mode Plus I 2 C-bus interface, one RS-485/EIA-485 USART with support for synchronous mode and smart card interface, two SSP interfaces, four general purpose counter/timers, a 10-bit ADC, and up to 54 general purpose I/O pins.    AAL Eindhoven MK
FLASH: 96kB; GPIO: 40; SRAM: 10kB
footprint SOT313-2
pins: 1 PIO1_25/CT32B0_MAT1, 2 PIO1_19/!DTR!/SSEL1, 3 !RESET!/PIO0_0, 4 PIO0_1/CLKOUT/CT32B0_MAT2/USB_FTOGGLE, 5 41 VSS (power), 6 XTALIN, 7 XTALOUT (out), 8 44 VDD (power), 9 PIO0_20/CT16B1_CAP0, 10 PIO0_2/SSEL0/CT16B0_CAP0, 11 PIO1_26/CT32B0_MAT2/RXD, 12 PIO1_27/CT32B0_MAT3/TXD, 13 PIO1_20/!DSR!/SCK1, 14 PIO0_3/USB_VBUS, 15 PIO0_4/SCL, 16 PIO0_5/SDA, 17 PIO0_21/CT16B1_MAT0/MOSI1, 18 PIO1_23/CT16B1_MAT1/SSEL1, 19 USB_DM, 20 USB_DP, 21 PIO1_24/CT32B0_MAT0, 22 PIO0_6/!USB_CONNECT!/SCK0, 23 PIO0_7/!CTS!, 24 PIO1_28/CT32B0_CAP0/SCLK, 25 PIO1_31, 26 PIO1_21/!DCD!/MISO1, 27 PIO0_8/MISO0/CT16B0_MAT0, 28 PIO0_9/MOSI0/CT16B0_MAT1, 29 SWCLK/PIO0_10/SCK0/CT16B0_MAT2, 30 PIO0_22/AD6/CT16B1_MAT1/MISO1, 31 PIO1_29/SCK0/CT32B0_CAP1, 32 TDI/PIO0_11/AD0/CT32B0_MAT3, 33 TMS/PIO0_12/AD1/CT32B1_CAP0, 34 TDO/PIO0_13/AD2/CT32B1_MAT0, 35 !TRST!/PIO0_14/AD3/CT32B1_MAT1, 36 PIO1_13/!DTR!/CT16B0_MAT0/TXD, 37 PIO1_14/!DSR!/CT16B0_MAT1/RXD, 38 PIO1_22/!RI!/MOSI1, 39 SWDIO/PIO0_15/AD4/CT32B1_MAT2, 40 PIO0_16/AD5/CT32B1_MAT3/WAKEUP, 42 PIO0_23/AD7, 43 PIO1_15/!DCD!/CT16B0_MAT2/SCK1, 45 PIO0_17/!RTS!/CT32B0_CAP0/SCLK, 46 PIO0_18/RXD/CT32B0_MAT0, 47 PIO0_19/TXD/CT32B0_MAT1, 48 PIO1_16/!RI!/CT16B0_CAP0

## LPC11U36FBD64
designator U?, comment 32-bit ARM Cortex-M0 microcontroller; up to 128  kB flash; up to 12  kB SRAM and 4 kB EEPROM; USB device; USART The LPC11U3x are a ARM Cortex-M0 based, low-cost 32-bit MCU family, designed for 8/16-bit microcontroller applications, offering performance, low power, simple instruction set and memory addressing together with reduced code size compared to existing 8/16-bit architectures. The LPC11U3x operate at CPU frequencies of up to 50 MHz. Equipped with a highly flexible and configurable Full Speed USB 2.0 device controller, the LPC11U3x brings unparalleled design flexibility and seamless integration to today’s demanding connectivity solutions. The peripheral complement of the LPC11U3x includes up to 128 kB of flash memory, up to 12 kB of SRAM data memory and 4 kB EEPROM, one Fast-mode Plus I 2 C-bus interface, one RS-485/EIA-485 USART with support for synchronous mode and smart card interface, two SSP interfaces, four general purpose counter/timers, a 10-bit ADC, and up to 54 general purpose I/O pins.    AAL Eindhoven MK
FLASH: 96kB; GPIO: 54; SRAM: 10kB
footprint SOT314-2
pins: 1 PIO1_0/CT32B1_MAT0, 2 PIO1_25/CT32B0_MAT1, 3 PIO1_19/!DTR!/SSEL1, 4 !RESET!/PIO0_0, 5 PIO0_1/CLKOUT/CT32B0_MAT2/USB_FTOGGLE, 6 PIO1_7, 7 54 VSS (power), 8 XTALIN, 9 XTALOUT (out), 10 33 48 58 VDD (power), 11 PIO0_20/CT16B1_CAP0, 12 PIO1_10, 13 PIO0_2/SSEL0/CT16B0_CAP0, 14 PIO1_26/CT32B0_MAT2/RXD, 15 PIO1_27/CT32B0_MAT3/TXD, 16 PIO1_4/CT32B1_CAP0, 17 PIO1_1/CT32B1_MAT1, 18 PIO1_20/!DSR!/SCK1, 19 PIO0_3/USB_VBUS, 20 PIO0_4/SCL, 21 PIO0_5/SDA, 22 PIO0_21/CT16B1_MAT0, 23 PIO1_17/CT16B0_CAP1/RXD, 24 PIO1_23/CT16B1_MAT1/SSEL1, 25 USB_DM, 26 USB_DP, 27 PIO1_24/CT32B0_MAT0, 28 PIO1_18/CT16B1_CAP1/TXD, 29 PIO0_6/!USB_CONNECT!/SCK0, 30 PIO0_7/!CTS!, 31 PIO1_28/CT32B0_CAP0/SCLK, 32 PIO1_5/CT32B1_CAP1, 34 PIO1_2/CT32B1_MAT2, 35 PIO1_21/!DCD!/MISO1, 36 PIO0_8/MISO0/CT16B0_MAT0, 37 PIO0_9/MOSI0/CT16B0_MAT1, 38 SWCLK/PIO0_10/SCK0/CT16B0_MAT2, 39 PIO1_8, 40 PIO0_22/AD6/CT16B1_MAT1/MISO1, 41 PIO1_29/SCK0/CT32B0_CAP1, 42 TDI/PIO0_11/AD0/CT32B0_MAT3, 43 PIO1_11, 44 TMS/PIO0_12/AD1/CT32B1_CAP0, 45 TDO/PIO0_13/AD2/CT32B1_MAT0, 46 !TRST!/PIO0_14/AD3/CT32B1_MAT1, 47 PIO1_13/!DTR!/CT16B0_MAT0/TXD, 49 PIO1_14/!DSR!/CT16B0_MAT1/RXD, 50 PIO1_3/CT32B1_MAT3, 51 PIO1_22/!RI!/MOSI1, 52 SWDIO/PIO0_15/AD4/CT32B1_MAT2, 53 PIO0_16/AD5/CT32B1_MAT3/WAKEUP, 55 PIO1_9, 56 PIO0_23/AD7, 57 PIO1_15/!DCD!/CT16B0_MAT2/SCK1, 59 PIO1_12, 60 PIO0_17/!RTS!/CT32B0_CAP0/SCLK, 61 PIO0_18/RXD/CT32B0_MAT0, 62 PIO0_19/TXD/CT32B0_MAT1, 63 PIO1_16/!RI!/CT16B0_CAP0, 64 PIO1_6

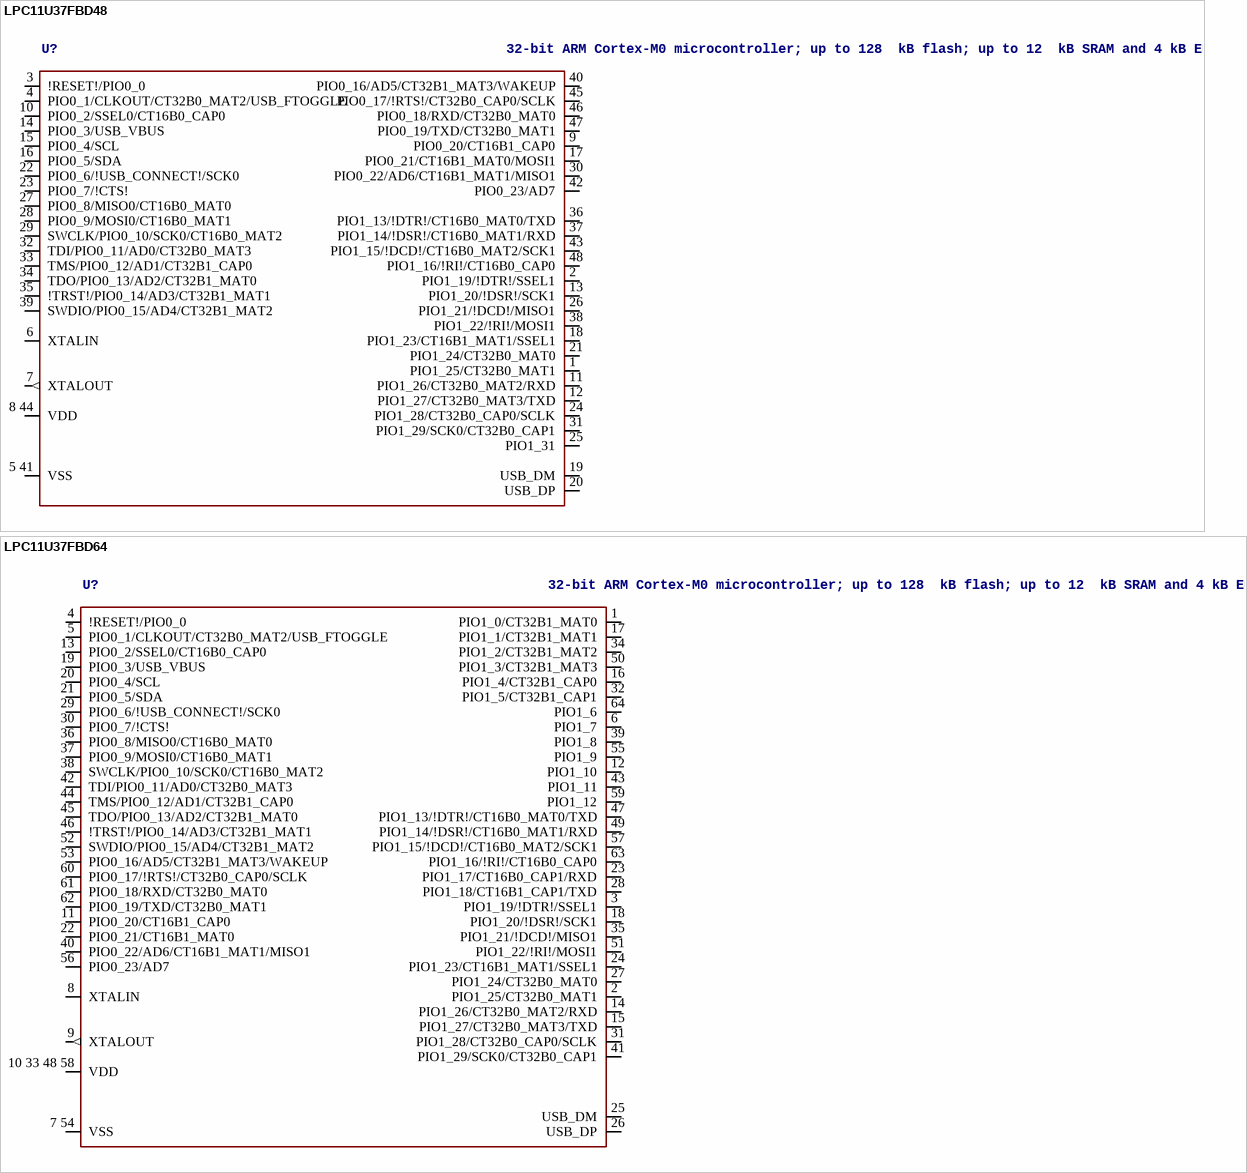
[diagram p52: symbols LPC11U37FBD48 to LPC11U37FBD64]

## LPC11U37FBD48
designator U?, comment 32-bit ARM Cortex-M0 microcontroller; up to 128  kB flash; up to 12  kB SRAM and 4 kB EEPROM; USB device; USART The LPC11U3x are a ARM Cortex-M0 based, low-cost 32-bit MCU family, designed for 8/16-bit microcontroller applications, offering performance, low power, simple instruction set and memory addressing together with reduced code size compared to existing 8/16-bit architectures. The LPC11U3x operate at CPU frequencies of up to 50 MHz. Equipped with a highly flexible and configurable Full Speed USB 2.0 device controller, the LPC11U3x brings unparalleled design flexibility and seamless integration to today’s demanding connectivity solutions. The peripheral complement of the LPC11U3x includes up to 128 kB of flash memory, up to 12 kB of SRAM data memory and 4 kB EEPROM, one Fast-mode Plus I 2 C-bus interface, one RS-485/EIA-485 USART with support for synchronous mode and smart card interface, two SSP interfaces, four general purpose counter/timers, a 10-bit ADC, and up to 54 general purpose I/O pins.    AAL Eindhoven MK
FLASH: 128kB; GPIO: 40; SRAM: 10kB
footprint SOT313-2
pins: 1 PIO1_25/CT32B0_MAT1, 2 PIO1_19/!DTR!/SSEL1, 3 !RESET!/PIO0_0, 4 PIO0_1/CLKOUT/CT32B0_MAT2/USB_FTOGGLE, 5 41 VSS (power), 6 XTALIN, 7 XTALOUT (out), 8 44 VDD (power), 9 PIO0_20/CT16B1_CAP0, 10 PIO0_2/SSEL0/CT16B0_CAP0, 11 PIO1_26/CT32B0_MAT2/RXD, 12 PIO1_27/CT32B0_MAT3/TXD, 13 PIO1_20/!DSR!/SCK1, 14 PIO0_3/USB_VBUS, 15 PIO0_4/SCL, 16 PIO0_5/SDA, 17 PIO0_21/CT16B1_MAT0/MOSI1, 18 PIO1_23/CT16B1_MAT1/SSEL1, 19 USB_DM, 20 USB_DP, 21 PIO1_24/CT32B0_MAT0, 22 PIO0_6/!USB_CONNECT!/SCK0, 23 PIO0_7/!CTS!, 24 PIO1_28/CT32B0_CAP0/SCLK, 25 PIO1_31, 26 PIO1_21/!DCD!/MISO1, 27 PIO0_8/MISO0/CT16B0_MAT0, 28 PIO0_9/MOSI0/CT16B0_MAT1, 29 SWCLK/PIO0_10/SCK0/CT16B0_MAT2, 30 PIO0_22/AD6/CT16B1_MAT1/MISO1, 31 PIO1_29/SCK0/CT32B0_CAP1, 32 TDI/PIO0_11/AD0/CT32B0_MAT3, 33 TMS/PIO0_12/AD1/CT32B1_CAP0, 34 TDO/PIO0_13/AD2/CT32B1_MAT0, 35 !TRST!/PIO0_14/AD3/CT32B1_MAT1, 36 PIO1_13/!DTR!/CT16B0_MAT0/TXD, 37 PIO1_14/!DSR!/CT16B0_MAT1/RXD, 38 PIO1_22/!RI!/MOSI1, 39 SWDIO/PIO0_15/AD4/CT32B1_MAT2, 40 PIO0_16/AD5/CT32B1_MAT3/WAKEUP, 42 PIO0_23/AD7, 43 PIO1_15/!DCD!/CT16B0_MAT2/SCK1, 45 PIO0_17/!RTS!/CT32B0_CAP0/SCLK, 46 PIO0_18/RXD/CT32B0_MAT0, 47 PIO0_19/TXD/CT32B0_MAT1, 48 PIO1_16/!RI!/CT16B0_CAP0

## LPC11U37FBD64
designator U?, comment 32-bit ARM Cortex-M0 microcontroller; up to 128  kB flash; up to 12  kB SRAM and 4 kB EEPROM; USB device; USART The LPC11U3x are a ARM Cortex-M0 based, low-cost 32-bit MCU family, designed for 8/16-bit microcontroller applications, offering performance, low power, simple instruction set and memory addressing together with reduced code size compared to existing 8/16-bit architectures. The LPC11U3x operate at CPU frequencies of up to 50 MHz. Equipped with a highly flexible and configurable Full Speed USB 2.0 device controller, the LPC11U3x brings unparalleled design flexibility and seamless integration to today’s demanding connectivity solutions. The peripheral complement of the LPC11U3x includes up to 128 kB of flash memory, up to 12 kB of SRAM data memory and 4 kB EEPROM, one Fast-mode Plus I 2 C-bus interface, one RS-485/EIA-485 USART with support for synchronous mode and smart card interface, two SSP interfaces, four general purpose counter/timers, a 10-bit ADC, and up to 54 general purpose I/O pins.    AAL Eindhoven MK
FLASH: 128kB; GPIO: 54; SRAM: 10kB
footprint SOT314-2
pins: 1 PIO1_0/CT32B1_MAT0, 2 PIO1_25/CT32B0_MAT1, 3 PIO1_19/!DTR!/SSEL1, 4 !RESET!/PIO0_0, 5 PIO0_1/CLKOUT/CT32B0_MAT2/USB_FTOGGLE, 6 PIO1_7, 7 54 VSS (power), 8 XTALIN, 9 XTALOUT (out), 10 33 48 58 VDD (power), 11 PIO0_20/CT16B1_CAP0, 12 PIO1_10, 13 PIO0_2/SSEL0/CT16B0_CAP0, 14 PIO1_26/CT32B0_MAT2/RXD, 15 PIO1_27/CT32B0_MAT3/TXD, 16 PIO1_4/CT32B1_CAP0, 17 PIO1_1/CT32B1_MAT1, 18 PIO1_20/!DSR!/SCK1, 19 PIO0_3/USB_VBUS, 20 PIO0_4/SCL, 21 PIO0_5/SDA, 22 PIO0_21/CT16B1_MAT0, 23 PIO1_17/CT16B0_CAP1/RXD, 24 PIO1_23/CT16B1_MAT1/SSEL1, 25 USB_DM, 26 USB_DP, 27 PIO1_24/CT32B0_MAT0, 28 PIO1_18/CT16B1_CAP1/TXD, 29 PIO0_6/!USB_CONNECT!/SCK0, 30 PIO0_7/!CTS!, 31 PIO1_28/CT32B0_CAP0/SCLK, 32 PIO1_5/CT32B1_CAP1, 34 PIO1_2/CT32B1_MAT2, 35 PIO1_21/!DCD!/MISO1, 36 PIO0_8/MISO0/CT16B0_MAT0, 37 PIO0_9/MOSI0/CT16B0_MAT1, 38 SWCLK/PIO0_10/SCK0/CT16B0_MAT2, 39 PIO1_8, 40 PIO0_22/AD6/CT16B1_MAT1/MISO1, 41 PIO1_29/SCK0/CT32B0_CAP1, 42 TDI/PIO0_11/AD0/CT32B0_MAT3, 43 PIO1_11, 44 TMS/PIO0_12/AD1/CT32B1_CAP0, 45 TDO/PIO0_13/AD2/CT32B1_MAT0, 46 !TRST!/PIO0_14/AD3/CT32B1_MAT1, 47 PIO1_13/!DTR!/CT16B0_MAT0/TXD, 49 PIO1_14/!DSR!/CT16B0_MAT1/RXD, 50 PIO1_3/CT32B1_MAT3, 51 PIO1_22/!RI!/MOSI1, 52 SWDIO/PIO0_15/AD4/CT32B1_MAT2, 53 PIO0_16/AD5/CT32B1_MAT3/WAKEUP, 55 PIO1_9, 56 PIO0_23/AD7, 57 PIO1_15/!DCD!/CT16B0_MAT2/SCK1, 59 PIO1_12, 60 PIO0_17/!RTS!/CT32B0_CAP0/SCLK, 61 PIO0_18/RXD/CT32B0_MAT0, 62 PIO0_19/TXD/CT32B0_MAT1, 63 PIO1_16/!RI!/CT16B0_CAP0, 64 PIO1_6

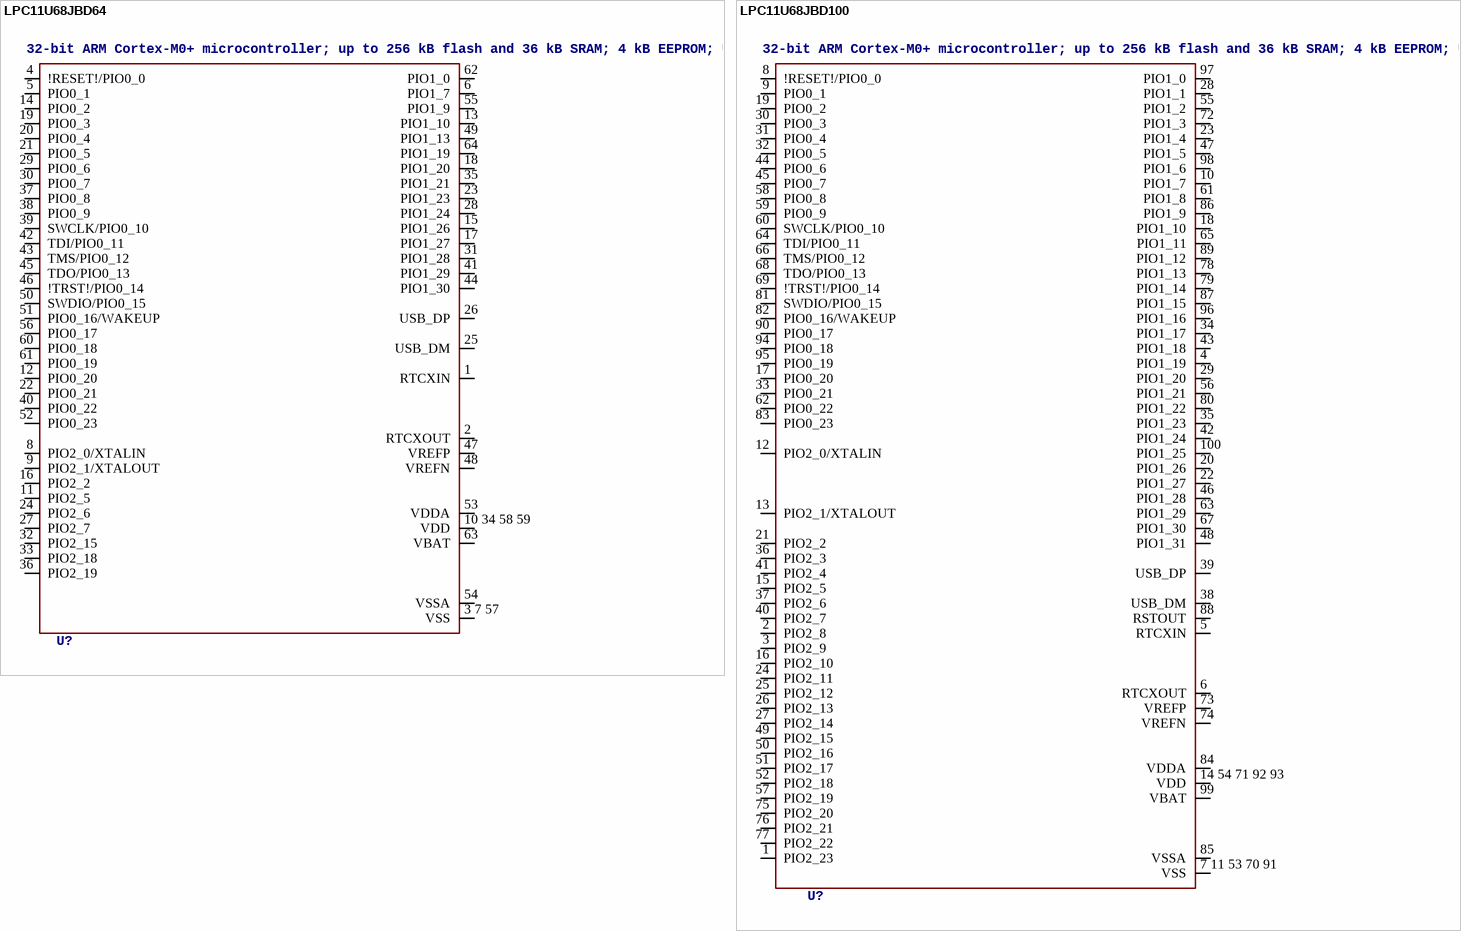
[diagram p53: symbols LPC11U68JBD64 to LPC11U68JBD100]

## LPC11U68JBD64
designator U?, comment 32-bit ARM Cortex-M0+ microcontroller; up to 256 kB flash and 36 kB SRAM; 4 kB EEPROM; USB; 12-bit ADC The LPC11U6x are an ARM Cortex-M0+ based, low-cost 32-bit MCU family operating at CPU frequencies of up to 50 MHz. The LPC11U6x support up to 256 kB of flash memory, a 4 kB EEPROM, and 36 kB of SRAM. The ARM Cortex-M0+ is an easy-to-use, energy-efficient core using a two-stage pipeline and fast single-cycle I/O access. The peripheral complement of the LPC11U6x includes a DMA controller, a CRC engine, one full-speed USB device controller with XTAL-less low-speed mode, two I2C-bus interfaces, up to five USARTs, two SSP interfaces, PWM/timer subsystem with six configurable multi-purpose timers, a Real-Time Clock, one 12-bit ADC, temperature sensor, function-configurable I/O ports, and up to 80 general-purpose I/O pins.    AAL Eindhoven MK
footprint SOT314-2
pins: 1 RTCXIN, 2 RTCXOUT, 3 7 57 VSS, 4 !RESET!/PIO0_0, 5 PIO0_1, 6 PIO1_7, 8 PIO2_0/XTALIN, 9 PIO2_1/XTALOUT, 10 34 58 59 VDD, 11 PIO2_5, 12 PIO0_20, 13 PIO1_10, 14 PIO0_2, 15 PIO1_26, 16 PIO2_2, 17 PIO1_27, 18 PIO1_20, 19 PIO0_3, 20 PIO0_4, 21 PIO0_5, 22 PIO0_21, 23 PIO1_23, 24 PIO2_6, 25 USB_DM, 26 USB_DP, 27 PIO2_7, 28 PIO1_24, 29 PIO0_6, 30 PIO0_7, 31 PIO1_28, 32 PIO2_15, 33 PIO2_18, 35 PIO1_21, 36 PIO2_19, 37 PIO0_8, 38 PIO0_9, 39 SWCLK/PIO0_10, 40 PIO0_22, 41 PIO1_29, 42 TDI/PIO0_11, 43 TMS/PIO0_12, 44 PIO1_30, 45 TDO/PIO0_13, 46 !TRST!/PIO0_14, 47 VREFP, 48 VREFN, 49 PIO1_13, 50 SWDIO/PIO0_15, 51 PIO0_16/WAKEUP, 52 PIO0_23, 53 VDDA, 54 VSSA, 55 PIO1_9, 56 PIO0_17, 60 PIO0_18, 61 PIO0_19, 62 PIO1_0, 63 VBAT, 64 PIO1_19

## LPC11U68JBD100
designator U?, comment 32-bit ARM Cortex-M0+ microcontroller; up to 256 kB flash and 36 kB SRAM; 4 kB EEPROM; USB; 12-bit ADC The LPC11U6x are an ARM Cortex-M0+ based, low-cost 32-bit MCU family operating at CPU frequencies of up to 50 MHz. The LPC11U6x support up to 256 kB of flash memory, a 4 kB EEPROM, and 36 kB of SRAM. The ARM Cortex-M0+ is an easy-to-use, energy-efficient core using a two-stage pipeline and fast single-cycle I/O access. The peripheral complement of the LPC11U6x includes a DMA controller, a CRC engine, one full-speed USB device controller with XTAL-less low-speed mode, two I2C-bus interfaces, up to five USARTs, two SSP interfaces, PWM/timer subsystem with six configurable multi-purpose timers, a Real-Time Clock, one 12-bit ADC, temperature sensor, function-configurable I/O ports, and up to 80 general-purpose I/O pins.    AAL Eindhoven MK
footprint SOT407-1
pins: 1 PIO2_23, 2 PIO2_8, 3 PIO2_9, 4 PIO1_19, 5 RTCXIN, 6 RTCXOUT, 7 11 53 70 91 VSS, 8 !RESET!/PIO0_0, 9 PIO0_1, 10 PIO1_7, 12 PIO2_0/XTALIN, 13 PIO2_1/XTALOUT, 14 54 71 92 93 VDD, 15 PIO2_5, 16 PIO2_10, 17 PIO0_20, 18 PIO1_10, 19 PIO0_2, 20 PIO1_26, 21 PIO2_2, 22 PIO1_27, 23 PIO1_4, 24 PIO2_11, 25 PIO2_12, 26 PIO2_13, 27 PIO2_14, 28 PIO1_1, 29 PIO1_20, 30 PIO0_3, 31 PIO0_4, 32 PIO0_5, 33 PIO0_21, 34 PIO1_17, 35 PIO1_23, 36 PIO2_3, 37 PIO2_6, 38 USB_DM, 39 USB_DP, 40 PIO2_7, 41 PIO2_4, 42 PIO1_24, 43 PIO1_18, 44 PIO0_6, 45 PIO0_7, 46 PIO1_28, 47 PIO1_5, 48 PIO1_31, 49 PIO2_15, 50 PIO2_16, 51 PIO2_17, 52 PIO2_18, 55 PIO1_2, 56 PIO1_21, 57 PIO2_19, 58 PIO0_8, 59 PIO0_9, 60 SWCLK/PIO0_10, 61 PIO1_8, 62 PIO0_22, 63 PIO1_29, 64 TDI/PIO0_11, 65 PIO1_11, 66 TMS/PIO0_12, 67 PIO1_30, 68 TDO/PIO0_13, 69 !TRST!/PIO0_14, 72 PIO1_3, 73 VREFP, 74 VREFN, 75 PIO2_20, 76 PIO2_21, 77 PIO2_22, 78 PIO1_13, 79 PIO1_14, 80 PIO1_22, 81 SWDIO/PIO0_15, 82 PIO0_16/WAKEUP, 83 PIO0_23, 84 VDDA, 85 VSSA, 86 PIO1_9, 87 PIO1_15, 88 RSTOUT, 89 PIO1_12, 90 PIO0_17, 94 PIO0_18, 95 PIO0_19, 96 PIO1_16, 97 PIO1_0, 98 PIO1_6, 99 VBAT, 100 PIO1_25

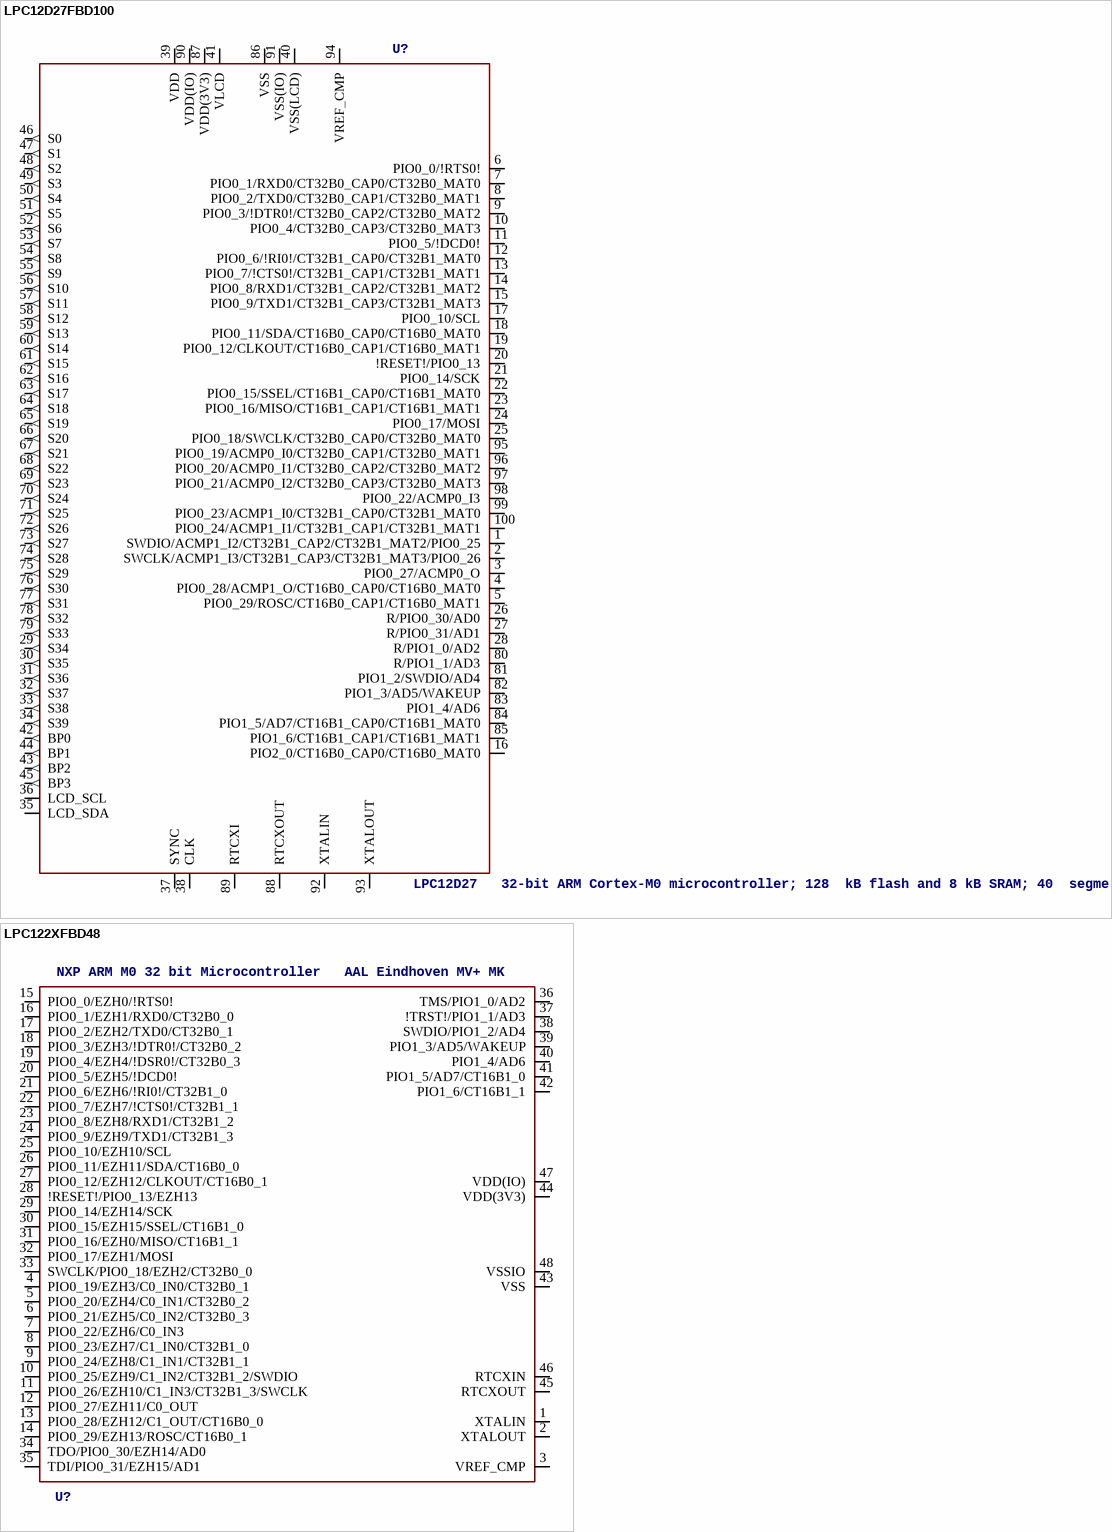
[diagram p54: symbols LPC12D27FBD100 to LPC122XFBD48]

## LPC12D27FBD100
designator U?, comment LPC12D27   32-bit ARM Cortex-M0 microcontroller; 128  kB flash and 8 kB SRAM; 40  segment x 4 LCD driver   AAL Eindhoven MK
footprint SOT407-1
pins: 1 SWDIO/ACMP1_I2/CT32B1_CAP2/CT32B1_MAT2/PIO0_25, 2 SWCLK/ACMP1_I3/CT32B1_CAP3/CT32B1_MAT3/PIO0_26, 3 PIO0_27/ACMP0_O, 4 PIO0_28/ACMP1_O/CT16B0_CAP0/CT16B0_MAT0, 5 PIO0_29/ROSC/CT16B0_CAP1/CT16B0_MAT1, 6 PIO0_0/!RTS0!, 7 PIO0_1/RXD0/CT32B0_CAP0/CT32B0_MAT0, 8 PIO0_2/TXD0/CT32B0_CAP1/CT32B0_MAT1, 9 PIO0_3/!DTR0!/CT32B0_CAP2/CT32B0_MAT2, 10 PIO0_4/CT32B0_CAP3/CT32B0_MAT3, 11 PIO0_5/!DCD0!, 12 PIO0_6/!RI0!/CT32B1_CAP0/CT32B1_MAT0, 13 PIO0_7/!CTS0!/CT32B1_CAP1/CT32B1_MAT1, 14 PIO0_8/RXD1/CT32B1_CAP2/CT32B1_MAT2, 15 PIO0_9/TXD1/CT32B1_CAP3/CT32B1_MAT3, 16 PIO2_0/CT16B0_CAP0/CT16B0_MAT0, 17 PIO0_10/SCL, 18 PIO0_11/SDA/CT16B0_CAP0/CT16B0_MAT0, 19 PIO0_12/CLKOUT/CT16B0_CAP1/CT16B0_MAT1, 20 !RESET!/PIO0_13, 21 PIO0_14/SCK, 22 PIO0_15/SSEL/CT16B1_CAP0/CT16B1_MAT0, 23 PIO0_16/MISO/CT16B1_CAP1/CT16B1_MAT1, 24 PIO0_17/MOSI, 25 PIO0_18/SWCLK/CT32B0_CAP0/CT32B0_MAT0, 26 R/PIO0_30/AD0, 27 R/PIO0_31/AD1, 28 R/PIO1_0/AD2, 29 S34 (out), 30 S35 (out), 31 S36 (out), 32 S37 (out), 33 S38 (out), 34 S39 (out), 35 LCD_SDA, 36 LCD_SCL, 37 SYNC, 38 CLK, 39 VDD (power), 40 VSS(LCD) (power), 41 VLCD (power), 42 BP0 (out), 43 BP2 (out), 44 BP1 (out), 45 BP3 (out), 46 S0 (out), 47 S1 (out), 48 S2 (out), 49 S3 (out), 50 S4 (out), 51 S5 (out), 52 S6 (out), 53 S7 (out), 54 S8 (out), 55 S9 (out), 56 S10 (out), 57 S11 (out), 58 S12 (out), 59 S13 (out), 60 S14 (out), 61 S15 (out), 62 S16 (out), 63 S17 (out), 64 S18 (out), 65 S19 (out), 66 S20 (out), 67 S21 (out), 68 S22 (out), 69 S23 (out), 70 S24 (out), 71 S25 (out), 72 S26 (out), 73 S27 (out), 74 S28 (out), 75 S29 (out), 76 S30 (out), 77 S31 (out), 78 S32 (out), 79 S33 (out), 80 R/PIO1_1/AD3, 81 PIO1_2/SWDIO/AD4, 82 PIO1_3/AD5/WAKEUP, 83 PIO1_4/AD6, 84 PIO1_5/AD7/CT16B1_CAP0/CT16B1_MAT0, 85 PIO1_6/CT16B1_CAP1/CT16B1_MAT1, 86 VSS (power), 87 VDD(3V3) (power), 88 RTCXOUT, 89 RTCXI, 90 VDD(IO) (power), 91 VSS(IO) (power), 92 XTALIN, 93 XTALOUT, 94 VREF_CMP (power), 95 PIO0_19/ACMP0_I0/CT32B0_CAP1/CT32B0_MAT1, 96 PIO0_20/ACMP0_I1/CT32B0_CAP2/CT32B0_MAT2, 97 PIO0_21/ACMP0_I2/CT32B0_CAP3/CT32B0_MAT3, 98 PIO0_22/ACMP0_I3, 99 PIO0_23/ACMP1_I0/CT32B1_CAP0/CT32B1_MAT0, 100 PIO0_24/ACMP1_I1/CT32B1_CAP1/CT32B1_MAT1

## LPC122XFBD48
designator U?, comment NXP ARM M0 32 bit Microcontroller   AAL Eindhoven MV+ MK
footprint SOT313-2
pins: 1 XTALIN, 2 XTALOUT, 3 VREF_CMP, 4 PIO0_19/EZH3/C0_IN0/CT32B0_1, 5 PIO0_20/EZH4/C0_IN1/CT32B0_2, 6 PIO0_21/EZH5/C0_IN2/CT32B0_3, 7 PIO0_22/EZH6/C0_IN3, 8 PIO0_23/EZH7/C1_IN0/CT32B1_0, 9 PIO0_24/EZH8/C1_IN1/CT32B1_1, 10 PIO0_25/EZH9/C1_IN2/CT32B1_2/SWDIO, 11 PIO0_26/EZH10/C1_IN3/CT32B1_3/SWCLK, 12 PIO0_27/EZH11/C0_OUT, 13 PIO0_28/EZH12/C1_OUT/CT16B0_0, 14 PIO0_29/EZH13/ROSC/CT16B0_1, 15 PIO0_0/EZH0/!RTS0!, 16 PIO0_1/EZH1/RXD0/CT32B0_0, 17 PIO0_2/EZH2/TXD0/CT32B0_1, 18 PIO0_3/EZH3/!DTR0!/CT32B0_2, 19 PIO0_4/EZH4/!DSR0!/CT32B0_3, 20 PIO0_5/EZH5/!DCD0!, 21 PIO0_6/EZH6/!RI0!/CT32B1_0, 22 PIO0_7/EZH7/!CTS0!/CT32B1_1, 23 PIO0_8/EZH8/RXD1/CT32B1_2, 24 PIO0_9/EZH9/TXD1/CT32B1_3, 25 PIO0_10/EZH10/SCL, 26 PIO0_11/EZH11/SDA/CT16B0_0, 27 PIO0_12/EZH12/CLKOUT/CT16B0_1, 28 !RESET!/PIO0_13/EZH13, 29 PIO0_14/EZH14/SCK, 30 PIO0_15/EZH15/SSEL/CT16B1_0, 31 PIO0_16/EZH0/MISO/CT16B1_1, 32 PIO0_17/EZH1/MOSI, 33 SWCLK/PIO0_18/EZH2/CT32B0_0, 34 TDO/PIO0_30/EZH14/AD0, 35 TDI/PIO0_31/EZH15/AD1, 36 TMS/PIO1_0/AD2, 37 !TRST!/PIO1_1/AD3, 38 SWDIO/PIO1_2/AD4, 39 PIO1_3/AD5/WAKEUP, 40 PIO1_4/AD6, 41 PIO1_5/AD7/CT16B1_0, 42 PIO1_6/CT16B1_1, 43 VSS (power), 44 VDD(3V3) (power), 45 RTCXOUT, 46 RTCXIN, 47 VDD(IO) (power), 48 VSSIO (power)

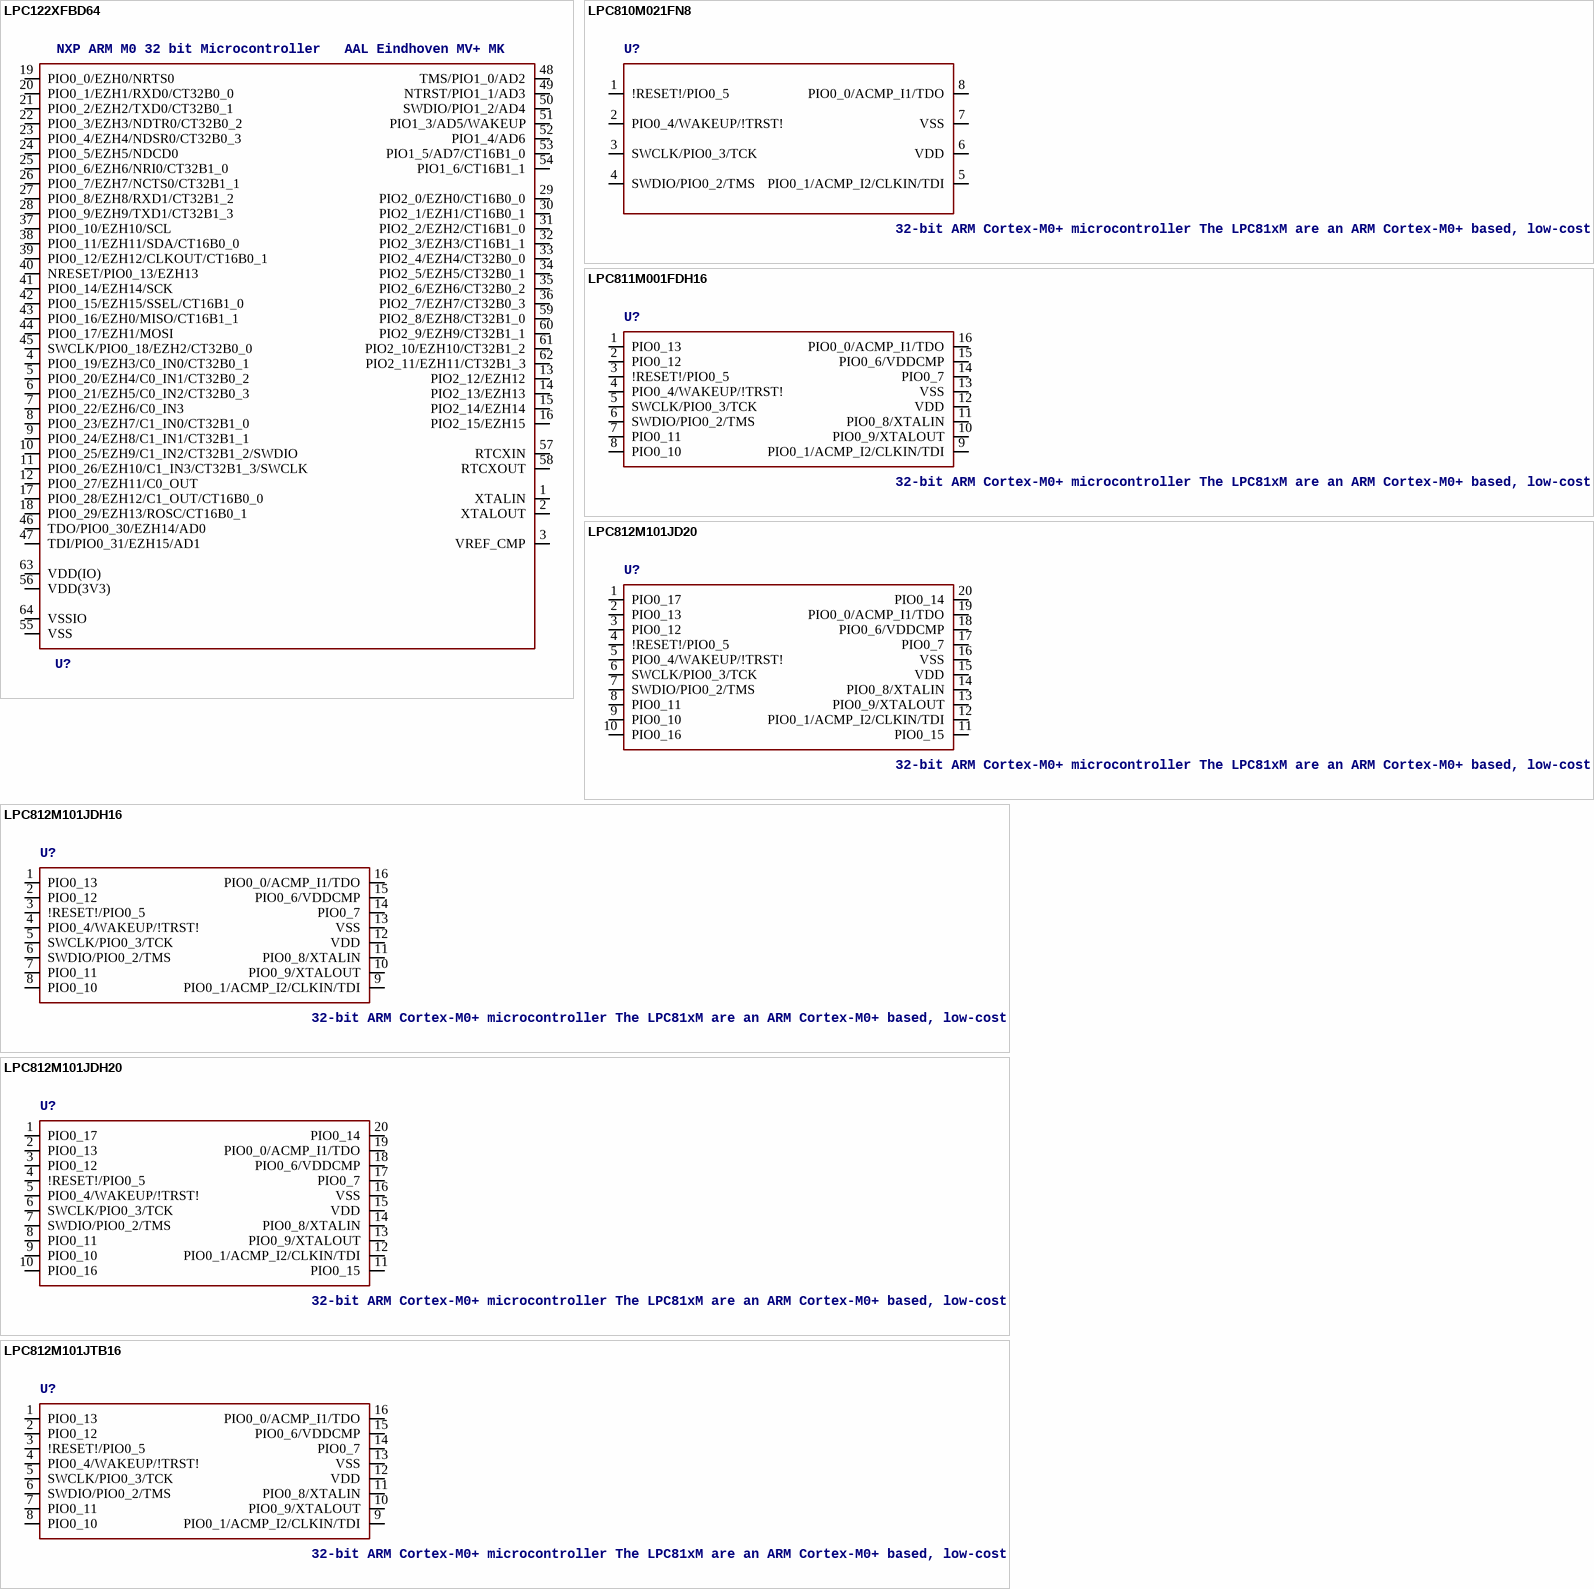
[diagram p55: symbols LPC122XFBD64 to LPC812M101JTB16]

## LPC122XFBD64
designator U?, comment NXP ARM M0 32 bit Microcontroller   AAL Eindhoven MV+ MK
footprint SOT314-2
pins: 1 XTALIN, 2 XTALOUT, 3 VREF_CMP, 4 PIO0_19/EZH3/C0_IN0/CT32B0_1, 5 PIO0_20/EZH4/C0_IN1/CT32B0_2, 6 PIO0_21/EZH5/C0_IN2/CT32B0_3, 7 PIO0_22/EZH6/C0_IN3, 8 PIO0_23/EZH7/C1_IN0/CT32B1_0, 9 PIO0_24/EZH8/C1_IN1/CT32B1_1, 10 PIO0_25/EZH9/C1_IN2/CT32B1_2/SWDIO, 11 PIO0_26/EZH10/C1_IN3/CT32B1_3/SWCLK, 12 PIO0_27/EZH11/C0_OUT, 13 PIO2_12/EZH12, 14 PIO2_13/EZH13, 15 PIO2_14/EZH14, 16 PIO2_15/EZH15, 17 PIO0_28/EZH12/C1_OUT/CT16B0_0, 18 PIO0_29/EZH13/ROSC/CT16B0_1, 19 PIO0_0/EZH0/NRTS0, 20 PIO0_1/EZH1/RXD0/CT32B0_0, 21 PIO0_2/EZH2/TXD0/CT32B0_1, 22 PIO0_3/EZH3/NDTR0/CT32B0_2, 23 PIO0_4/EZH4/NDSR0/CT32B0_3, 24 PIO0_5/EZH5/NDCD0, 25 PIO0_6/EZH6/NRI0/CT32B1_0, 26 PIO0_7/EZH7/NCTS0/CT32B1_1, 27 PIO0_8/EZH8/RXD1/CT32B1_2, 28 PIO0_9/EZH9/TXD1/CT32B1_3, 29 PIO2_0/EZH0/CT16B0_0, 30 PIO2_1/EZH1/CT16B0_1, 31 PIO2_2/EZH2/CT16B1_0, 32 PIO2_3/EZH3/CT16B1_1, 33 PIO2_4/EZH4/CT32B0_0, 34 PIO2_5/EZH5/CT32B0_1, 35 PIO2_6/EZH6/CT32B0_2, 36 PIO2_7/EZH7/CT32B0_3, 37 PIO0_10/EZH10/SCL, 38 PIO0_11/EZH11/SDA/CT16B0_0, 39 PIO0_12/EZH12/CLKOUT/CT16B0_1, 40 NRESET/PIO0_13/EZH13, 41 PIO0_14/EZH14/SCK, 42 PIO0_15/EZH15/SSEL/CT16B1_0, 43 PIO0_16/EZH0/MISO/CT16B1_1, 44 PIO0_17/EZH1/MOSI, 45 SWCLK/PIO0_18/EZH2/CT32B0_0, 46 TDO/PIO0_30/EZH14/AD0, 47 TDI/PIO0_31/EZH15/AD1, 48 TMS/PIO1_0/AD2, 49 NTRST/PIO1_1/AD3, 50 SWDIO/PIO1_2/AD4, 51 PIO1_3/AD5/WAKEUP, 52 PIO1_4/AD6, 53 PIO1_5/AD7/CT16B1_0, 54 PIO1_6/CT16B1_1, 55 VSS (power), 56 VDD(3V3) (power), 57 RTCXIN, 58 RTCXOUT, 59 PIO2_8/EZH8/CT32B1_0, 60 PIO2_9/EZH9/CT32B1_1, 61 PIO2_10/EZH10/CT32B1_2, 62 PIO2_11/EZH11/CT32B1_3, 63 VDD(IO) (power), 64 VSSIO (power)

## LPC810M021FN8
designator U?, comment 32-bit ARM Cortex-M0+ microcontroller The LPC81xM are an ARM Cortex-M0+ based, low-cost 32-bit MCU family operating at CPU frequencies of up to 30 MHz. The LPC81xM support up to 16 kB of flash memory and 4 kB of SRAM. The peripheral complement of the LPC81xM includes a CRC engine, one I 2 C-bus interface, up to three USARTs, up to two SPI interfaces, one multi-rate timer, self wake-up timer, and state-configurable timer, one comparator, function-configurable I/O ports through a switch matrix, an input pattern match engine, and up to 18 general-purpose I/O pins.    AAL Eindhoven MK
COMP: 1; FLASH: 4k; GPIO: 6; SRAM: 1k; USART: 2; I2C: 1; SPI: 1
footprint SOT97-1
pins: 1 !RESET!/PIO0_5, 2 PIO0_4/WAKEUP/!TRST!, 3 SWCLK/PIO0_3/TCK, 4 SWDIO/PIO0_2/TMS, 5 PIO0_1/ACMP_I2/CLKIN/TDI, 6 VDD (power), 7 VSS (power), 8 PIO0_0/ACMP_I1/TDO

## LPC811M001FDH16
designator U?, comment 32-bit ARM Cortex-M0+ microcontroller The LPC81xM are an ARM Cortex-M0+ based, low-cost 32-bit MCU family operating at CPU frequencies of up to 30 MHz. The LPC81xM support up to 16 kB of flash memory and 4 kB of SRAM. The peripheral complement of the LPC81xM includes a CRC engine, one I 2 C-bus interface, up to three USARTs, up to two SPI interfaces, one multi-rate timer, self wake-up timer, and state-configurable timer, one comparator, function-configurable I/O ports through a switch matrix, an input pattern match engine, and up to 18 general-purpose I/O pins.    AAL Eindhoven MK
COMP: 1; FLASH: 8k; GPIO: 14; SRAM: 2k; USART: 2; I2C: 1; SPI: 1
footprint SOT403-1
pins: 1 PIO0_13, 2 PIO0_12, 3 !RESET!/PIO0_5, 4 PIO0_4/WAKEUP/!TRST!, 5 SWCLK/PIO0_3/TCK, 6 SWDIO/PIO0_2/TMS, 7 PIO0_11, 8 PIO0_10, 9 PIO0_1/ACMP_I2/CLKIN/TDI, 10 PIO0_9/XTALOUT, 11 PIO0_8/XTALIN, 12 VDD (power), 13 VSS (power), 14 PIO0_7, 15 PIO0_6/VDDCMP, 16 PIO0_0/ACMP_I1/TDO

## LPC812M101JD20
designator U?, comment 32-bit ARM Cortex-M0+ microcontroller The LPC81xM are an ARM Cortex-M0+ based, low-cost 32-bit MCU family operating at CPU frequencies of up to 30 MHz. The LPC81xM support up to 16 kB of flash memory and 4 kB of SRAM. The peripheral complement of the LPC81xM includes a CRC engine, one I 2 C-bus interface, up to three USARTs, up to two SPI interfaces, one multi-rate timer, self wake-up timer, and state-configurable timer, one comparator, function-configurable I/O ports through a switch matrix, an input pattern match engine, and up to 18 general-purpose I/O pins.    AAL Eindhoven MK
COMP: 1; FLASH: 16k; GPIO: 18; SRAM: 4k; USART: 2; I2C: 1; SPI: 1
footprint SOT163-1
pins: 1 PIO0_17, 2 PIO0_13, 3 PIO0_12, 4 !RESET!/PIO0_5, 5 PIO0_4/WAKEUP/!TRST!, 6 SWCLK/PIO0_3/TCK, 7 SWDIO/PIO0_2/TMS, 8 PIO0_11, 9 PIO0_10, 10 PIO0_16, 11 PIO0_15, 12 PIO0_1/ACMP_I2/CLKIN/TDI, 13 PIO0_9/XTALOUT, 14 PIO0_8/XTALIN, 15 VDD (power), 16 VSS (power), 17 PIO0_7, 18 PIO0_6/VDDCMP, 19 PIO0_0/ACMP_I1/TDO, 20 PIO0_14

## LPC812M101JDH16
designator U?, comment 32-bit ARM Cortex-M0+ microcontroller The LPC81xM are an ARM Cortex-M0+ based, low-cost 32-bit MCU family operating at CPU frequencies of up to 30 MHz. The LPC81xM support up to 16 kB of flash memory and 4 kB of SRAM. The peripheral complement of the LPC81xM includes a CRC engine, one I 2 C-bus interface, up to three USARTs, up to two SPI interfaces, one multi-rate timer, self wake-up timer, and state-configurable timer, one comparator, function-configurable I/O ports through a switch matrix, an input pattern match engine, and up to 18 general-purpose I/O pins.    AAL Eindhoven MK
COMP: 1; FLASH: 16k; GPIO: 14; SPI: 2; SRAM: 4k; USART: 3; I2C: 1
footprint SOT403-1
pins: 1 PIO0_13, 2 PIO0_12, 3 !RESET!/PIO0_5, 4 PIO0_4/WAKEUP/!TRST!, 5 SWCLK/PIO0_3/TCK, 6 SWDIO/PIO0_2/TMS, 7 PIO0_11, 8 PIO0_10, 9 PIO0_1/ACMP_I2/CLKIN/TDI, 10 PIO0_9/XTALOUT, 11 PIO0_8/XTALIN, 12 VDD (power), 13 VSS (power), 14 PIO0_7, 15 PIO0_6/VDDCMP, 16 PIO0_0/ACMP_I1/TDO

## LPC812M101JDH20
designator U?, comment 32-bit ARM Cortex-M0+ microcontroller The LPC81xM are an ARM Cortex-M0+ based, low-cost 32-bit MCU family operating at CPU frequencies of up to 30 MHz. The LPC81xM support up to 16 kB of flash memory and 4 kB of SRAM. The peripheral complement of the LPC81xM includes a CRC engine, one I 2 C-bus interface, up to three USARTs, up to two SPI interfaces, one multi-rate timer, self wake-up timer, and state-configurable timer, one comparator, function-configurable I/O ports through a switch matrix, an input pattern match engine, and up to 18 general-purpose I/O pins.    AAL Eindhoven MK
COMP: 1; FLASH: 16k; GPIO: 18; SPI: 2; SRAM: 4k; USART: 3; I2C: 1
footprint SOT360
pins: 1 PIO0_17, 2 PIO0_13, 3 PIO0_12, 4 !RESET!/PIO0_5, 5 PIO0_4/WAKEUP/!TRST!, 6 SWCLK/PIO0_3/TCK, 7 SWDIO/PIO0_2/TMS, 8 PIO0_11, 9 PIO0_10, 10 PIO0_16, 11 PIO0_15, 12 PIO0_1/ACMP_I2/CLKIN/TDI, 13 PIO0_9/XTALOUT, 14 PIO0_8/XTALIN, 15 VDD (power), 16 VSS (power), 17 PIO0_7, 18 PIO0_6/VDDCMP, 19 PIO0_0/ACMP_I1/TDO, 20 PIO0_14

## LPC812M101JTB16
designator U?, comment 32-bit ARM Cortex-M0+ microcontroller The LPC81xM are an ARM Cortex-M0+ based, low-cost 32-bit MCU family operating at CPU frequencies of up to 30 MHz. The LPC81xM support up to 16 kB of flash memory and 4 kB of SRAM. The peripheral complement of the LPC81xM includes a CRC engine, one I 2 C-bus interface, up to three USARTs, up to two SPI interfaces, one multi-rate timer, self wake-up timer, and state-configurable timer, one comparator, function-configurable I/O ports through a switch matrix, an input pattern match engine, and up to 18 general-purpose I/O pins.    AAL Eindhoven MK
footprint SOT1341-1
pins: 1 PIO0_13, 2 PIO0_12, 3 !RESET!/PIO0_5, 4 PIO0_4/WAKEUP/!TRST!, 5 SWCLK/PIO0_3/TCK, 6 SWDIO/PIO0_2/TMS, 7 PIO0_11, 8 PIO0_10, 9 PIO0_1/ACMP_I2/CLKIN/TDI, 10 PIO0_9/XTALOUT, 11 PIO0_8/XTALIN, 12 VDD (power), 13 VSS (power), 14 PIO0_7, 15 PIO0_6/VDDCMP, 16 PIO0_0/ACMP_I1/TDO

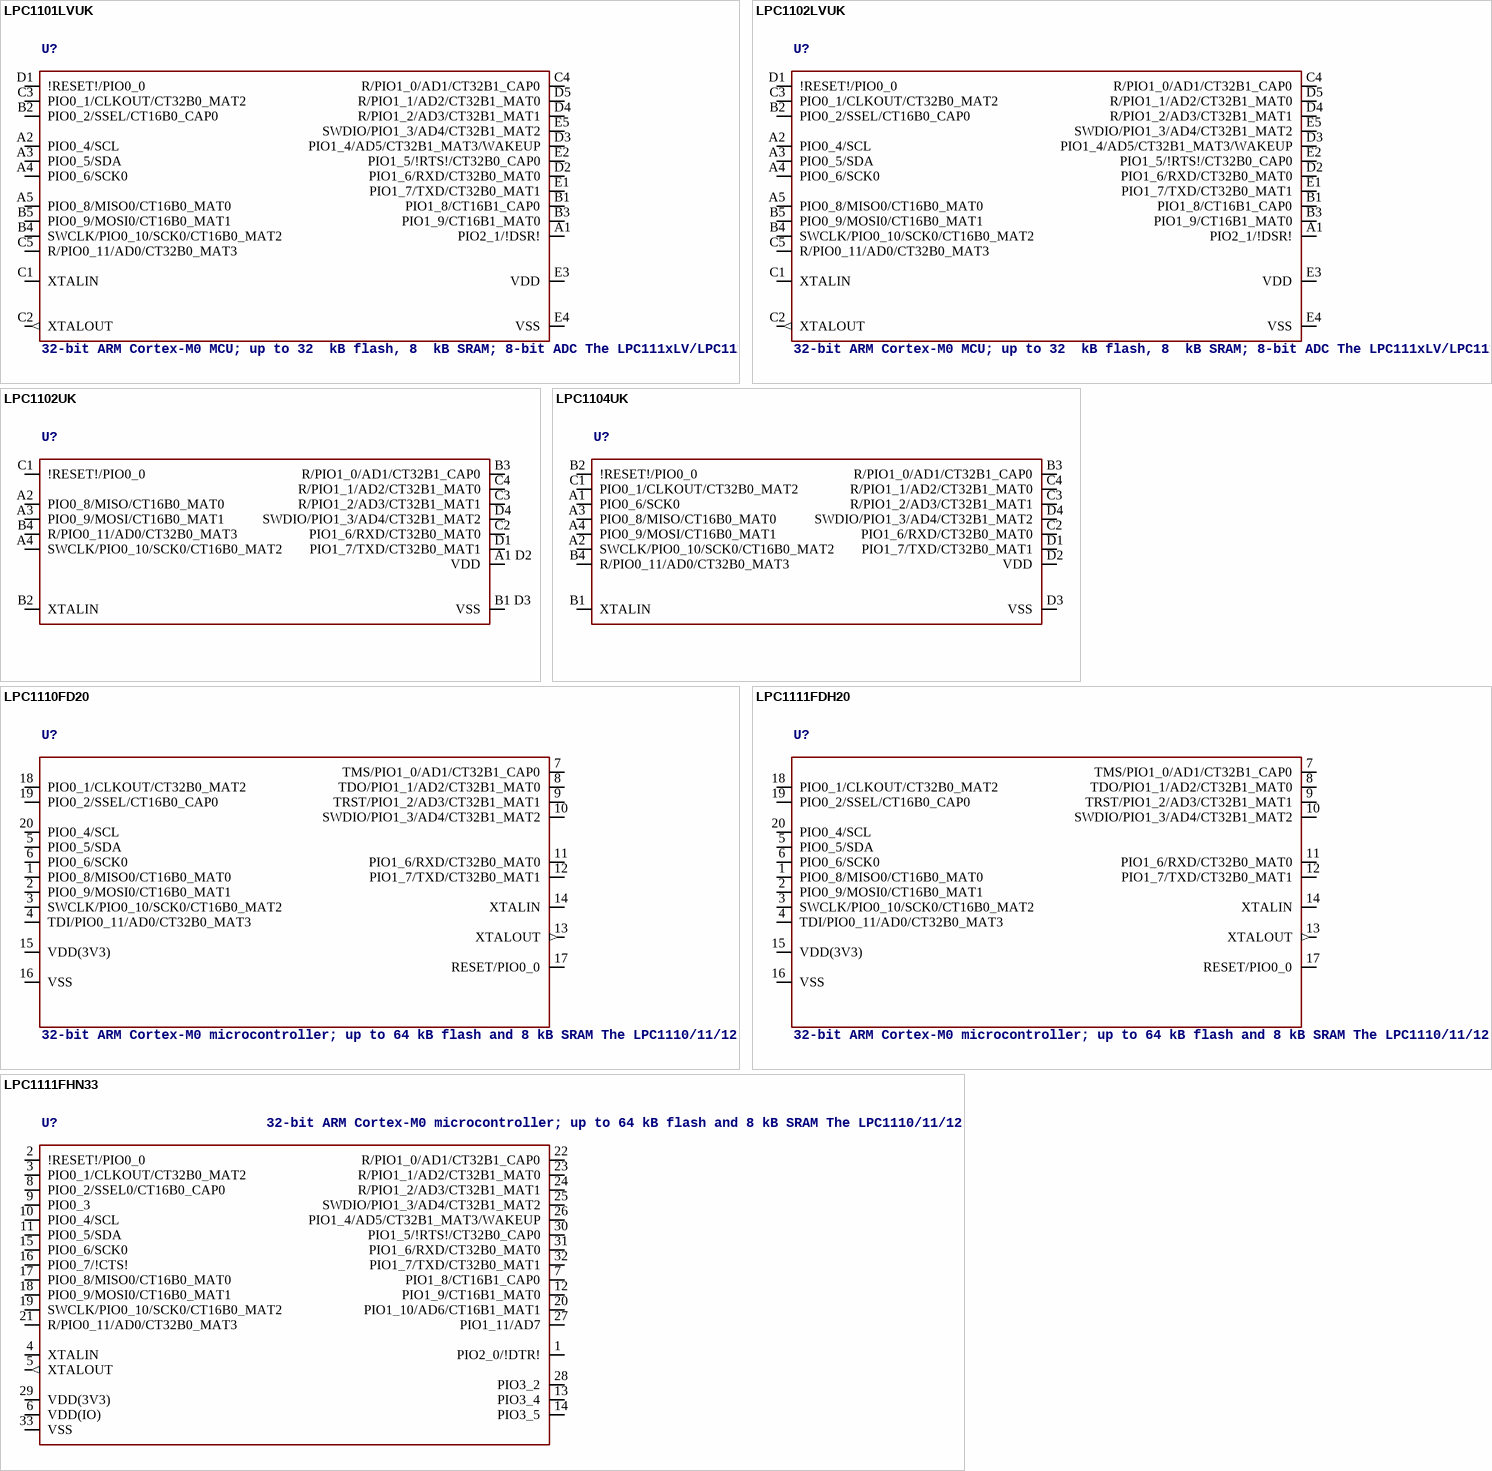
[diagram p56: symbols LPC1101LVUK to LPC1111FHN33]

## LPC1101LVUK
designator U?, comment 32-bit ARM Cortex-M0 MCU; up to 32  kB flash, 8  kB SRAM; 8-bit ADC The LPC111xLV/LPC11xxLVUK is an ARM Cortex-M0-based, low-cost 32-bit MCU family, designed for 8/16-bit microcontroller applications, offering performance, low power, simple instruction set and memory addressing together with reduced code size compared to existing 8/16-bit architectures. The LPC111xLV/LPC11xxLVUK operate at CPU frequencies of up to 50 MHz. The peripherals of the LPC111xLV/LPC11xxLVUK include up to 32 kB of flash memory, up to 8 kB of SRAM data memory, a Fast-mode Plus I 2 C-bus interface, one SSP/SPI interface, one UART, four general-purpose counter/timers, an 8-bit ADC, and up to 27 general-purpose I/O pins.    AAL Eindhoven MK
footprint WLCSP25
pins: A1 PIO2_1/!DSR!, A2 PIO0_4/SCL, A3 PIO0_5/SDA, A4 PIO0_6/SCK0, A5 PIO0_8/MISO0/CT16B0_MAT0, B1 PIO1_8/CT16B1_CAP0, B2 PIO0_2/SSEL/CT16B0_CAP0, B3 PIO1_9/CT16B1_MAT0, B4 SWCLK/PIO0_10/SCK0/CT16B0_MAT2, B5 PIO0_9/MOSI0/CT16B0_MAT1, C1 XTALIN, C2 XTALOUT (out), C3 PIO0_1/CLKOUT/CT32B0_MAT2, C4 R/PIO1_0/AD1/CT32B1_CAP0, C5 R/PIO0_11/AD0/CT32B0_MAT3, D1 !RESET!/PIO0_0, D2 PIO1_6/RXD/CT32B0_MAT0, D3 PIO1_4/AD5/CT32B1_MAT3/WAKEUP, D4 R/PIO1_2/AD3/CT32B1_MAT1, D5 R/PIO1_1/AD2/CT32B1_MAT0, E1 PIO1_7/TXD/CT32B0_MAT1, E2 PIO1_5/!RTS!/CT32B0_CAP0, E3 VDD (power), E4 VSS (power), E5 SWDIO/PIO1_3/AD4/CT32B1_MAT2